# Altium integrated library Altium Database Library V2.IntLib: 629 symbols (part 20 of 28)

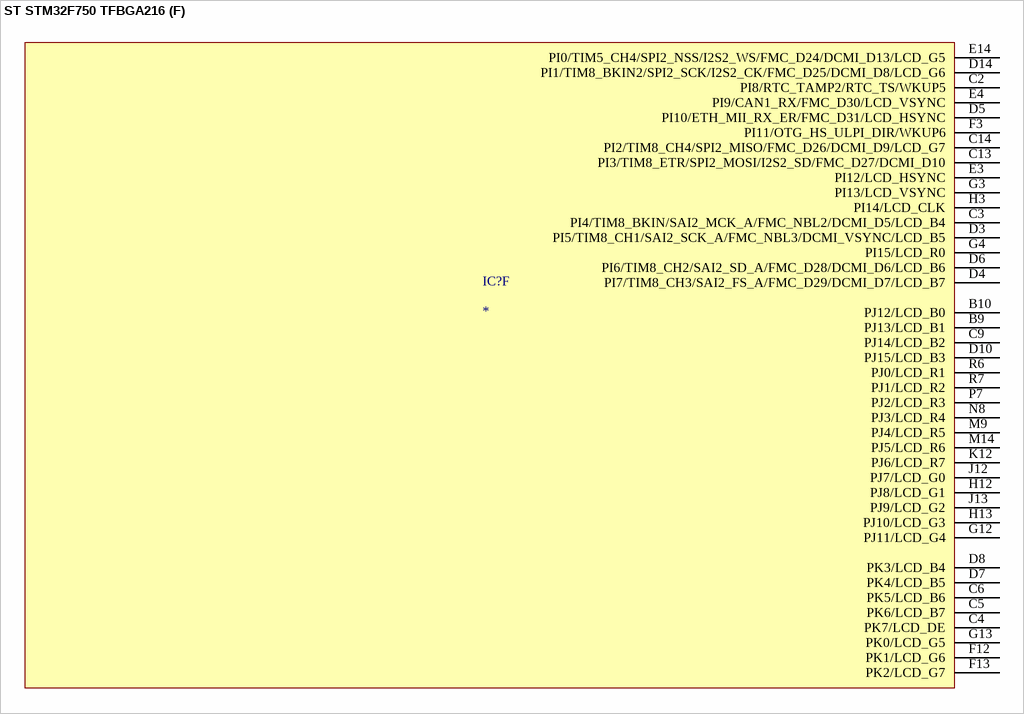
[diagram p437: symbol ST STM32F750 TFBGA216]

## ST STM32F750 TFBGA216
designator IC?
part A pins: C1 VBAT, E5 PDR_ON, E6 BOOT/VPP, E7 VDD, E8 VDD, E9 VDD, E10 VDD, E11 VCAP_2, F2 VSS, F4 VDD, F5 VDD, F6 VSS, F7 VSS, F8 VSS, F9 VSS, F10 VSS, F11 VDD, G5 VDD, G6 VSS, G10 VSS, G11 VDDUSB, H5 VDD, H6 VSS, H10 VSS, H11 VDD, J1 ~{RST}, J5 VDD, J6 VSS, J10 VSS, J11 VDD, K5 VDD, K6 VSS, K7 VSS, K8 VSS, K9 VSS, K10 VSS, K11 VDD, L5 BYPASS_REG, L6 VSS, L7 VDD, L8 VDD, L9 VDD, L10 VDD, L11 VCAP_1, M1 VSSA, N1 VREF-, P1 VREF+, R1 VDDA
part B pins: A7 PB8/TIM4_CH3/TIM10_CH1/I2C1_SCL/CAN1_RX/ETH_MII_TXD3/SDMMC1_D4/DCMI_D6/LCD_B6, A8 PB5/TIM3_CH2/I2C1_SMBA/SPI1_MOSI/I2S1_SD/SPI3_MOSI/I2S3_SD/CAN2_RX/OTG_HS_ULPI_D7/ETH_PPS_OUT/FMC_SDCKE1/DCMI_D10, A9 PB4/NJTRST/TIM3_CH1/SPI1_MISO/SPI3_MISO/SPI2_NSS/I2S2_WS, A10 PB3/JTDO/TRAC ESWO/TRACESWO/TIM2_CH2/SPI1_SCK/I2S1_CK/SPI3_SCK/I2S3_CK, A13 PA15/JTDI/TIM2_CH1/TIM2_ETR/HDMI-CEC/SPI1_NSS/I2S1_WS/SPI3_NSS/I2S3_WS/UART4_RTS, A14 PA14/JTCK- SWCLK/JTCK-SWCLK, A15 PA13/JTMS- SWDIO/JTMS-SWDIO, B4 PB9/TIM4_CH4/TIM11_CH1/I2C1_SDA/SPI2_NSS/I2S2_WS/CAN1_TX/SDMMC1_D5/DCMI_D7/LCD_B7, B5 PB7/TIM4_CH2/I2C1_SDA/USART1_RX/FMC_NL/DCMI_VSYNC, B6 PB6/TIM4_CH1/HDMI-CEC/I2C1_SCL/USART1_TX/CAN2_TX/QUADSPI_BK1_NCS/FMC_SDNE1/DCMI_D5, B15 PA12/TIM1_ETR/USART1_RTS/SAI2_FS_B/CAN1_TX/OTG_FS_DP/LCD_R5, C15 PA11/TIM1_CH4/USART1_CTS/CAN1_RX/OTG_FS_DM/LCD_R4, D15 PA10/TIM1_CH3/USART1_RX/OTG_FS_ID/DCMI_D1, E15 PA9/TIM1_CH2/I2C3_SMBA/SPI2_SCK/I2S2_CK/USART1_TX/DCMI_D0/OTG_FS_VBUS, F15 PA8/MCO1/TIM1_CH1/TIM8_BKIN2/I2C3_SCL/USART1_CK/OTG_FS_SOF/LCD_R6, K14 PB13/TIM1_CH1N/SPI2_SCK/I2S2_CK/USART3_CTS/CAN2_TX/OTG_HS_ULPI_D6/ETH_MII_TXD1/ETH_RMII_TXD1/OTG_HS_VBUS, L13 PB12/TIM1_BKIN/I2C2_SMBA/SPI2_NSS/I2S2_WS/USART3_CK/CAN2_RX/OTG_HS_ULPI_D5/ETH_MII_TXD0/ETH_RMII_TXD0/OTG_HS_ID, M5 PB2/SAI1_SD_A/SPI3_MOSI/I2S3_SD/QUADSPI_CLK, N2 PA1/TIM2_CH2/TIM5_CH2/USART2_RTS/UART4_RX/QUADSPI_BK1_IO3/SAI2_MCK_B/ETH_MII_RX_CLK/ETH_RMII_REF_CLK/LCD_R2/ADC123_IN1, N3 PA0-WKUP(PA0)/TIM2_CH1/TIM2_ETR/TIM5_CH1/TIM8_ETR/USART2_CTS/UART4_TX/SAI2_SD_B/ETH_MII_CRS/ADC123_IN0/WKUP1, N4 PA4/SPI1_NSS/I2S1_WS/SPI3_NSS/I2S3_WS/USART2_CK/OTG_HS_SOF/DCMI_HSYNC/LCD_VSYNC/ADC12_IN4/DAC_OUT1, P2 PA2/TIM2_CH3/TIM5_CH3/TIM9_CH1/USART2_TX/SAI2_SCK_B/ETH_MDIO/LCD_R1/ADC123_IN2/WKUP2, P3 PA6/TIM1_BKIN/TIM3_CH1/TIM8_BKIN/SPI1_MISO/TIM13_CH1/DCMI_PIXCLK/LCD_G2/ADC12_IN6, P4 PA5/TIM2_CH1/TIM2_ETR/TIM8_CH1N/SPI1_SCK/I2S1_CK/OTG_HS_ULPI_CK/LCD_R4/ADC12_IN5/DAC_OUT2, P12 PB10/TIM2_CH3/I2C2_SCL/SPI2_SCK/I2S2_CK/USART3_TX/OTG_HS_ULPI_D3/ETH_MII_RX_ER/LCD_G4, R2 PA3/TIM2_CH4/TIM5_CH4/TIM9_CH2/USART2_RX/OTG_HS_ULPI_D0/ETH_MII_COL/LCD_B5/ADC123_IN3, R3 PA7/TIM1_CH1N/TIM3_CH2/TIM8_CH1N/SPI1_MOSI/I2S1_SD/TIM14_CH1/ETH_MII_RX_DV/ETH_RMII_CRS_DV/FMC_SDNWE/ADC12_IN7, R4 PB1/TIM1_CH3N/TIM3_CH4/TIM8_CH3N/LCD_R6/OTG_HS_ULPI_D2/ETH_MII_RXD3/ADC12_IN9, R5 PB0/TIM1_CH2N/TIM3_CH3/TIM8_CH2N/UART4_CTS/LCD_R3/OTG_HS_ULPI_D1/ETH_MII_RXD2/ADC12_IN8, R13 PB11/TIM2_CH4/I2C2_SDA/USART3_RX/OTG_HS_ULPI_D4/ETH_MII_TX_EN/ETH_RMII_TX_EN/LCD_G5, R14 PB14/TIM1_CH2N/TIM8_CH2N/SPI2_MISO/USART3_RTS/TIM12_CH1/OTG_HS_DM, R15 PB15/RTC_REFIN/TIM1_CH3N/TIM8_CH3N/SPI2_MOSI/I2S2_SD/TIM12_CH2/OTG_HS_DP
part C pins: A11 PD7/USART2_CK/SPDIFRX_IN0/FMC_NE1, A12 PC12/TRACED3/SPI3_MOSI/I2S3_SD/USART3_CK/UART5_TX/SDMMC1_CK/DCMI_D9, B11 PD6/SPI3_MOSI/I2S3_SD/SAI1_SD_A/USART2_RX/FMC_NWAIT/DCMI_D10/LCD_B2, B12 PD0/CAN1_RX/FMC_D2, B13 PC11/SPI3_MISO/USART3_RX/UART4_RX/QUADSPI_BK2_NCS/SDMMC1_D3/DCMI_D4, B14 PC10/SPI3_SCK/I2S3_CK/USART3_TX/UART4_TX/QUADSPI_BK1_IO1/SDMMC1_D2/DCMI_D8/LCD_R2, C10 PD5/USART2_TX/FMC_NWE, C11 PD3/SPI2_SCK/I2S2_CK/USART2_CTS/FMC_CLK/DCMI_D5/LCD_G7, C12 PD1/CAN1_TX/FMC_D3, D1 PC13/RTC_TAMP1/RTC_TS/RTC_OUT/WKUP4, D11 PD4/USART2_RTS/FMC_NOE, D12 PD2/TRACED2/TIM3_ETR/UART5_RX/SDMMC1_CMD/DCMI_D11, E1 PC14/OSC32_IN, F1 PC15/OSC32_OUT, F14 PC9/MCO2/TIM3_CH4/TIM8_CH4/I2C3_SDA/I2S_CKIN/UART5_CTS/QUADSPI_BK1_IO0/SDMMC1_D1/DCMI_D3, G14 PC8/TRACED1/TIM3_CH3/TIM8_CH3/UART5_RTS/USART6_CK/SDMMC1_D0/DCMI_D2, G15 PC7/TIM3_CH2/TIM8_CH2/I2S3_MCK/USART6_RX/SDMMC1_D7/DCMI_D1/LCD_G6, H15 PC6/TIM3_CH1/TIM8_CH1/I2S2_MCK/USART6_TX/SDMMC1_D6/DCMI_D0/LCD_HSYNC, K13 PD15/TIM4_CH4/UART8_RTS/FMC_D1, K15 PD10/USART3_CK/FMC_D15/LCD_B3, L4 PC3/SPI2_MOSI/I2S2_SD/OTG_HS_ULPI_NXT/ETH_MII_TX_CLK/FMC_SDCKE0/ADC123_IN13, L12 PD14/TIM4_CH3/UART8_CTS/FMC_D0, L14 PD9/USART3_RX/FMC_D14, L15 PD8/USART3_TX/SPDIFRX_IN11/FMC_D13, M2 PC0/SAI2_FS_B/OTG_HS_ULPI_STP/FMC_SDNWE/LCD_R5/ADC123_IN10, M3 PC1/TRACED0/SPI2_MOSI/I2S2_SD/SAI1_SD_A/ETH_MDC/ADC123_IN11/RTC_TAMP3/WKUP3, M4 PC2/SPI2_MISO/OTG_HS_ULPI_DIR/ETH_MII_TXD2/FMC_SDNE0/ADC123_IN12, M10 PD12/TIM4_CH1/LPTIM1_IN1/I2C4_SCL/USART3_RTS/QUADSPI_BK1_IO1/SAI2_FS_A/FMC_A17/FMC_ALE, M11 PD13/TIM4_CH2/LPTIM1_OUT/I2C4_SDA/QUADSPI_BK1_IO3/SAI2_SCK_A/FMC_A18, N5 PC4/I2S1_MCK/SPDIFRX_IN2/ETH_MII_RXD0/ETH_RMII_RXD0/FMC_SDNE0/ADC12_IN14, N10 PD11/I2C4_SMBA/USART3_CTS/QUADSPI_BK1_IO0/SAI2_SD_A/FMC_A16/FMC_CLE, P5 PC5/SPDIFRX_IN3/ETH_MII_RXD1/ETH_RMII_RXD1/FMC_SDCKE0/ADC12_IN15
part D pins: A1 PE4/TRACED1/SPI4_NSS/SAI1_FS_A/FMC_A20/DCMI_D4/LCD_B0, A2 PE3/TRACED0/SAI1_SD_B/FMC_A19, A3 PE2/TRACECLK/SPI4_SCK/SAI1_MCLK_A/QUADSPI_BK1_IO2/ETH_MII_TXD3/FMC_A23, A5 PE1/LPTIM1_IN2/UART8_TX/FMC_NBL1/DCMI_D3, A6 PE0/TIM4_ETR/LPTIM1_ETR/UART8_RX/SAI2_MCK_A/FMC_NBL0/DCMI_D2, B1 PE5/TRACED2/TIM9_CH1/SPI4_MISO/SAI1_SCK_A/FMC_A21/DCMI_D6/LCD_G0, B2 PE6/TRACED3/TIM1_BKIN2/TIM9_CH2/SPI4_MOSI/SAI1_SD_A/SAI2_MCK_B/FMC_A22/DCMI_D7/LCD_G1, D2 PF0/I2C2_SDA/FMC_A0, E2 PF1/I2C2_SCL/FMC_A1, G2 PF2/I2C2_SMBA/FMC_A2, H2 PF3/FMC_A3/ADC3_IN9, J2 PF4/FMC_A4/ADC3_IN14, K1 PF7/TIM11_CH1/SPI5_SCK/SAI1_MCLK_B/UART7_TX/QUADSPI_BK1_IO2/ADC3_IN5, K2 PF6/TIM10_CH1/SPI5_NSS/SAI1_SD_B/UART7_RX/QUADSPI_BK1_IO3/ADC3_IN4, K3 PF5/FMC_A5/ADC3_IN15, L1 PF10/DCMI_D11/LCD_DE/ADC3_IN8, L2 PF9/SPI5_MOSI/SAI1_FS_B/UART7_CTS/TIM14_CH1/QUADSPI_BK1_IO1/ADC3_IN7, L3 PF8/SPI5_MISO/SAI1_SCK_B/UART7_RTS/TIM13_CH1/QUADSPI_BK1_IO0/ADC3_IN6, M6 PF12/FMC_A6, M8 PF15/I2C4_SDA/FMC_A9, N6 PF13/I2C4_SMBA/FMC_A7, N9 PE8/TIM1_CH1N/UART7_TX/QUADSPI_BK2_IO1/FMC_D5, P6 PF14/I2C4_SCL/FMC_A8, P8 PF11/SPI5_MOSI/SAI2_SD_B/FMC_SDNRAS/DCMI_D12, P9 PE9/TIM1_CH1/UART7_RTS/QUADSPI_BK2_IO2/FMC_D6, P10 PE11/TIM1_CH2/SPI4_NSS/SAI2_SD_B/FMC_D8/LCD_G3, P11 PE14/TIM1_CH4/SPI4_MOSI/SAI2_MCK_B/FMC_D11/LCD_CLK, R8 PE7/TIM1_ETR/UART7_RX/QUADSPI_BK2_IO0/FMC_D4, R9 PE10/TIM1_CH2N/UART7_CTS/QUADSPI_BK2_IO3/FMC_D7, R10 PE12/TIM1_CH3N/SPI4_SCK/SAI2_SCK_B/FMC_D9/LCD_B4, R11 PE15/TIM1_BKIN/FMC_D12/LCD_R7, R12 PE13/TIM1_CH3/SPI4_MISO/SAI2_FS_B/FMC_D10/LCD_DE
part E pins: A4 PG14/TRACED1/LPTIM1_ETR/SPI6_MOSI/USART6_TX/QUADSPI_BK2_IO3/ETH_MII_TXD1/ETH_RMII_TXD1/FMC_A25/LCD_B0, B3 PG13/TRACED0/LPTIM1_OUT/SPI6_SCK/USART6_CTS/ETH_MII_TXD0/ETH_RMII_TXD0/FMC_A24/LCD_R0, B7 PG15/USART6_CTS/FMC_SDNCAS/DCMI_D13, B8 PG11/SPDIFRX_IN0/ETH_MII_TX_EN/ETH_RMII_TX_EN/DCMI_D3/LCD_B3, C7 PG12/LPTIM1_IN1/SPI6_MISO/SPDIFRX_IN1/USART6_RTS/LCD_B4/FMC_NE4/LCD_B1, C8 PG10/LCD_G3/SAI2_SD_B/FMC_NE3/DCMI_D2/LCD_B2, D9 PG9/SPDIFRX_IN3/USART6_RX/QUADSPI_BK2_IO2/SAI2_FS_B/FMC_NE2/FMC_NCE/DCMI_VSYNC, D13 PH15/TIM8_CH3N/FMC_D23/DCMI_D11/LCD_G4, E12 PH13/TIM8_CH1N/CAN1_TX/FMC_D21/LCD_G2, E13 PH14/TIM8_CH2N/FMC_D22/DCMI_D4/LCD_G3, G1 PH0/OSC_IN, H1 PH1/OSC_OUT, H4 PH4/I2C2_SCL/OTG_HS_ULPI_NXT, H14 PG8/SPI6_NSS/SPDIFRX_IN2/USART6_RTS/ETH_PPS_OUT/FMC_SDCLK, J3 PH5/I2C2_SDA/SPI5_NSS/FMC_SDNWE, J4 PH3/QUADSPI_BK2_IO1/SAI2_MCK_B/ETH_MII_COL/FMC_SDNE0/LCD_R1, J14 PG7/USART6_CK/FMC_INT/DCMI_D13/LCD_CLK, J15 PG6/DCMI_D12/LCD_R7, K4 PH2/LPTIM1_IN2/QUADSPI_BK2_IO0/SAI2_SCK_B/ETH_MII_CRS/FMC_SDCKE0/LCD_R0, M7 PG1/FMC_A11, M12 PG3/FMC_A13, M13 PG2/FMC_A12, M15 PH12/TIM5_CH3/I2C4_SDA/FMC_D20/DCMI_D3/LCD_R6, N7 PG0/FMC_A10, N11 PG5/FMC_A15/FMC_BA1, N12 PG4/FMC_A14/FMC_BA0, N13 PH7/I2C3_SCL/SPI5_MISO/ETH_MII_RXD3/FMC_SDCKE1/DCMI_D9, N14 PH9/I2C3_SMBA/TIM12_CH2/FMC_D17/DCMI_D0/LCD_R3, N15 PH11/TIM5_CH2/I2C4_SCL/FMC_D19/DCMI_D2/LCD_R5, P13 PH6/I2C2_SMBA/SPI5_SCK/TIM12_CH1/ETH_MII_RXD2/FMC_SDNE1/DCMI_D8, P14 PH8/I2C3_SDA/FMC_D16/DCMI_HSYNC/LCD_R2, P15 PH10/TIM5_CH1/I2C4_SMBA/FMC_D18/DCMI_D1/LCD_R4
part F pins: B9 PJ13/LCD_B1, B10 PJ12/LCD_B0, C2 PI8/RTC_TAMP2/RTC_TS/WKUP5, C3 PI4/TIM8_BKIN/SAI2_MCK_A/FMC_NBL2/DCMI_D5/LCD_B4, C4 PK7/LCD_DE, C5 PK6/LCD_B7, C6 PK5/LCD_B6, C9 PJ14/LCD_B2, C13 PI3/TIM8_ETR/SPI2_MOSI/I2S2_SD/FMC_D27/DCMI_D10, C14 PI2/TIM8_CH4/SPI2_MISO/FMC_D26/DCMI_D9/LCD_G7, D3 PI5/TIM8_CH1/SAI2_SCK_A/FMC_NBL3/DCMI_VSYNC/LCD_B5, D4 PI7/TIM8_CH3/SAI2_FS_A/FMC_D29/DCMI_D7/LCD_B7, D5 PI10/ETH_MII_RX_ER/FMC_D31/LCD_HSYNC, D6 PI6/TIM8_CH2/SAI2_SD_A/FMC_D28/DCMI_D6/LCD_B6, D7 PK4/LCD_B5, D8 PK3/LCD_B4, D10 PJ15/LCD_B3, D14 PI1/TIM8_BKIN2/SPI2_SCK/I2S2_CK/FMC_D25/DCMI_D8/LCD_G6, E3 PI12/LCD_HSYNC, E4 PI9/CAN1_RX/FMC_D30/LCD_VSYNC, E14 PI0/TIM5_CH4/SPI2_NSS/I2S2_WS/FMC_D24/DCMI_D13/LCD_G5, F3 PI11/OTG_HS_ULPI_DIR/WKUP6, F12 PK1/LCD_G6, F13 PK2/LCD_G7, G3 PI13/LCD_VSYNC, G4 PI15/LCD_R0, G12 PJ11/LCD_G4, G13 PK0/LCD_G5, H3 PI14/LCD_CLK, H12 PJ8/LCD_G1, H13 PJ10/LCD_G3, J12 PJ7/LCD_G0, J13 PJ9/LCD_G2, K12 PJ6/LCD_R7, M9 PJ4/LCD_R5, M14 PJ5/LCD_R6, N8 PJ3/LCD_R4, P7 PJ2/LCD_R3, R6 PJ0/LCD_R1, R7 PJ1/LCD_R2


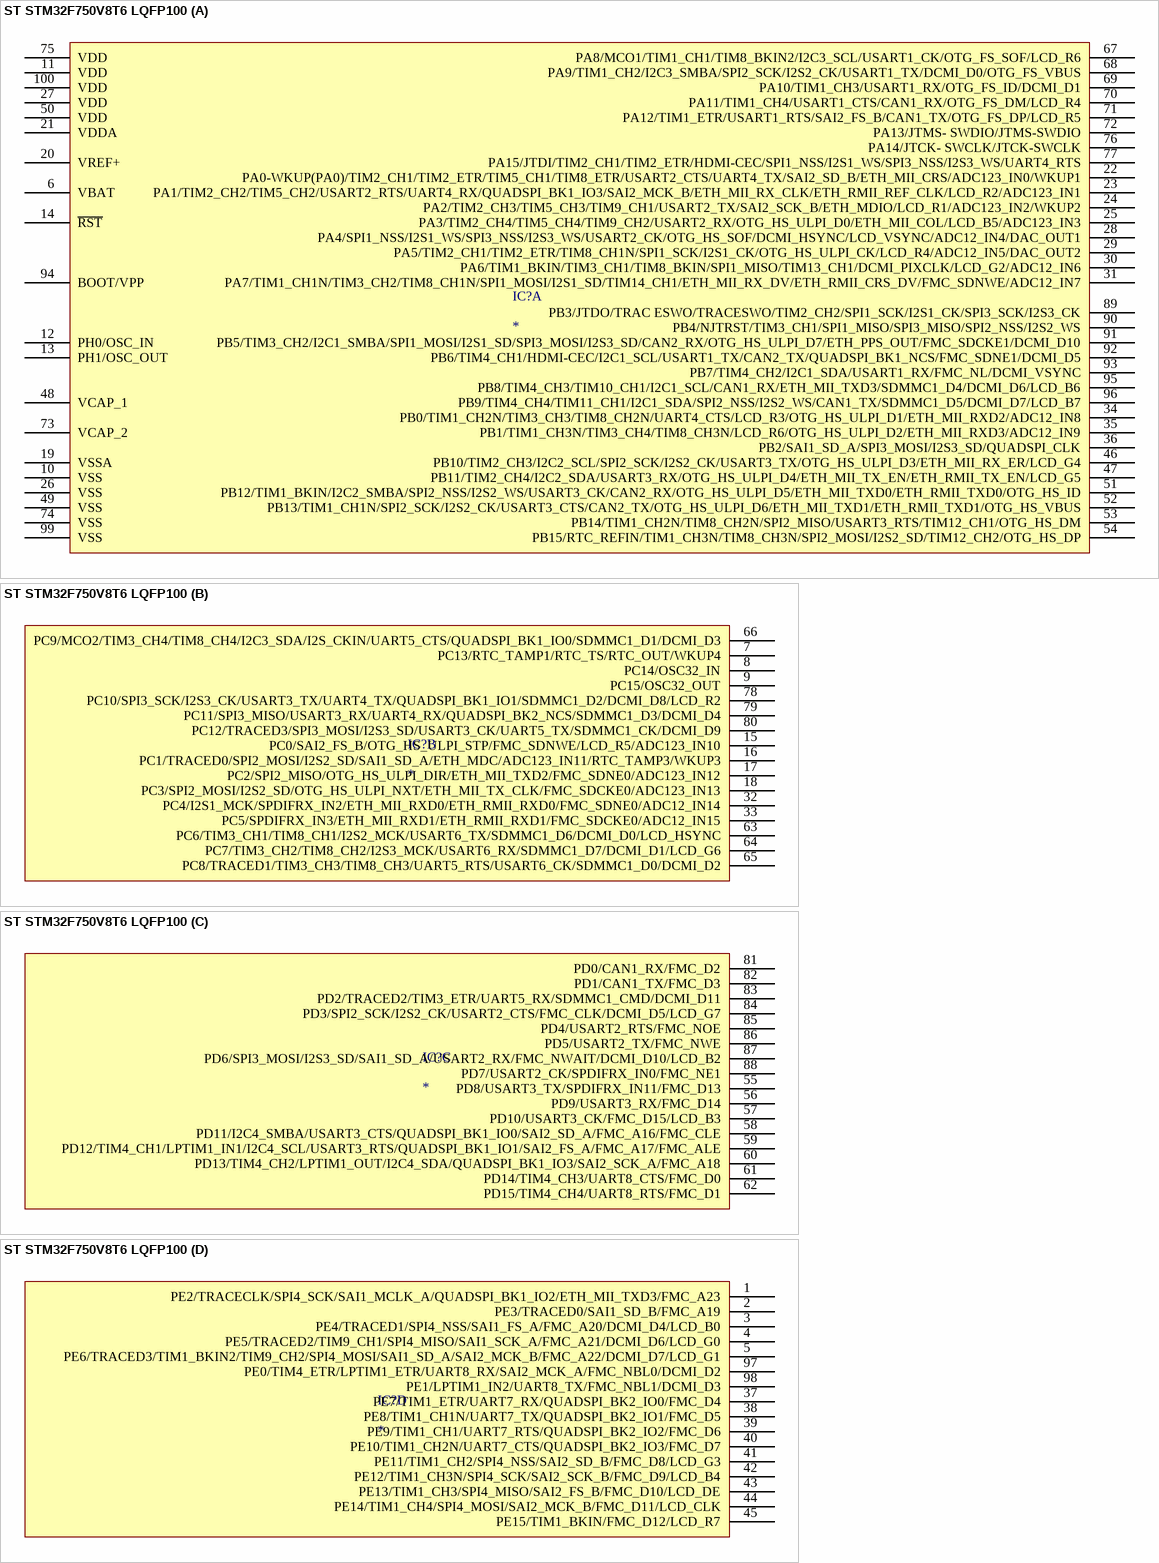
[diagram p438: symbol ST STM32F750V8T6 LQFP100]

## ST STM32F750V8T6 LQFP100
designator IC?
part A pins: 6 VBAT, 10 VSS, 11 VDD, 12 PH0/OSC_IN, 13 PH1/OSC_OUT, 14 ~{RST}, 19 VSSA, 20 VREF+, 21 VDDA, 22 PA0-WKUP(PA0)/TIM2_CH1/TIM2_ETR/TIM5_CH1/TIM8_ETR/USART2_CTS/UART4_TX/SAI2_SD_B/ETH_MII_CRS/ADC123_IN0/WKUP1, 23 PA1/TIM2_CH2/TIM5_CH2/USART2_RTS/UART4_RX/QUADSPI_BK1_IO3/SAI2_MCK_B/ETH_MII_RX_CLK/ETH_RMII_REF_CLK/LCD_R2/ADC123_IN1, 24 PA2/TIM2_CH3/TIM5_CH3/TIM9_CH1/USART2_TX/SAI2_SCK_B/ETH_MDIO/LCD_R1/ADC123_IN2/WKUP2, 25 PA3/TIM2_CH4/TIM5_CH4/TIM9_CH2/USART2_RX/OTG_HS_ULPI_D0/ETH_MII_COL/LCD_B5/ADC123_IN3, 26 VSS, 27 VDD, 28 PA4/SPI1_NSS/I2S1_WS/SPI3_NSS/I2S3_WS/USART2_CK/OTG_HS_SOF/DCMI_HSYNC/LCD_VSYNC/ADC12_IN4/DAC_OUT1, 29 PA5/TIM2_CH1/TIM2_ETR/TIM8_CH1N/SPI1_SCK/I2S1_CK/OTG_HS_ULPI_CK/LCD_R4/ADC12_IN5/DAC_OUT2, 30 PA6/TIM1_BKIN/TIM3_CH1/TIM8_BKIN/SPI1_MISO/TIM13_CH1/DCMI_PIXCLK/LCD_G2/ADC12_IN6, 31 PA7/TIM1_CH1N/TIM3_CH2/TIM8_CH1N/SPI1_MOSI/I2S1_SD/TIM14_CH1/ETH_MII_RX_DV/ETH_RMII_CRS_DV/FMC_SDNWE/ADC12_IN7, 34 PB0/TIM1_CH2N/TIM3_CH3/TIM8_CH2N/UART4_CTS/LCD_R3/OTG_HS_ULPI_D1/ETH_MII_RXD2/ADC12_IN8, 35 PB1/TIM1_CH3N/TIM3_CH4/TIM8_CH3N/LCD_R6/OTG_HS_ULPI_D2/ETH_MII_RXD3/ADC12_IN9, 36 PB2/SAI1_SD_A/SPI3_MOSI/I2S3_SD/QUADSPI_CLK, 46 PB10/TIM2_CH3/I2C2_SCL/SPI2_SCK/I2S2_CK/USART3_TX/OTG_HS_ULPI_D3/ETH_MII_RX_ER/LCD_G4, 47 PB11/TIM2_CH4/I2C2_SDA/USART3_RX/OTG_HS_ULPI_D4/ETH_MII_TX_EN/ETH_RMII_TX_EN/LCD_G5, 48 VCAP_1, 49 VSS, 50 VDD, 51 PB12/TIM1_BKIN/I2C2_SMBA/SPI2_NSS/I2S2_WS/USART3_CK/CAN2_RX/OTG_HS_ULPI_D5/ETH_MII_TXD0/ETH_RMII_TXD0/OTG_HS_ID, 52 PB13/TIM1_CH1N/SPI2_SCK/I2S2_CK/USART3_CTS/CAN2_TX/OTG_HS_ULPI_D6/ETH_MII_TXD1/ETH_RMII_TXD1/OTG_HS_VBUS, 53 PB14/TIM1_CH2N/TIM8_CH2N/SPI2_MISO/USART3_RTS/TIM12_CH1/OTG_HS_DM, 54 PB15/RTC_REFIN/TIM1_CH3N/TIM8_CH3N/SPI2_MOSI/I2S2_SD/TIM12_CH2/OTG_HS_DP, 67 PA8/MCO1/TIM1_CH1/TIM8_BKIN2/I2C3_SCL/USART1_CK/OTG_FS_SOF/LCD_R6, 68 PA9/TIM1_CH2/I2C3_SMBA/SPI2_SCK/I2S2_CK/USART1_TX/DCMI_D0/OTG_FS_VBUS, 69 PA10/TIM1_CH3/USART1_RX/OTG_FS_ID/DCMI_D1, 70 PA11/TIM1_CH4/USART1_CTS/CAN1_RX/OTG_FS_DM/LCD_R4, 71 PA12/TIM1_ETR/USART1_RTS/SAI2_FS_B/CAN1_TX/OTG_FS_DP/LCD_R5, 72 PA13/JTMS- SWDIO/JTMS-SWDIO, 73 VCAP_2, 74 VSS, 75 VDD, 76 PA14/JTCK- SWCLK/JTCK-SWCLK, 77 PA15/JTDI/TIM2_CH1/TIM2_ETR/HDMI-CEC/SPI1_NSS/I2S1_WS/SPI3_NSS/I2S3_WS/UART4_RTS, 89 PB3/JTDO/TRAC ESWO/TRACESWO/TIM2_CH2/SPI1_SCK/I2S1_CK/SPI3_SCK/I2S3_CK, 90 PB4/NJTRST/TIM3_CH1/SPI1_MISO/SPI3_MISO/SPI2_NSS/I2S2_WS, 91 PB5/TIM3_CH2/I2C1_SMBA/SPI1_MOSI/I2S1_SD/SPI3_MOSI/I2S3_SD/CAN2_RX/OTG_HS_ULPI_D7/ETH_PPS_OUT/FMC_SDCKE1/DCMI_D10, 92 PB6/TIM4_CH1/HDMI-CEC/I2C1_SCL/USART1_TX/CAN2_TX/QUADSPI_BK1_NCS/FMC_SDNE1/DCMI_D5, 93 PB7/TIM4_CH2/I2C1_SDA/USART1_RX/FMC_NL/DCMI_VSYNC, 94 BOOT/VPP, 95 PB8/TIM4_CH3/TIM10_CH1/I2C1_SCL/CAN1_RX/ETH_MII_TXD3/SDMMC1_D4/DCMI_D6/LCD_B6, 96 PB9/TIM4_CH4/TIM11_CH1/I2C1_SDA/SPI2_NSS/I2S2_WS/CAN1_TX/SDMMC1_D5/DCMI_D7/LCD_B7, 99 VSS, 100 VDD
part B pins: 7 PC13/RTC_TAMP1/RTC_TS/RTC_OUT/WKUP4, 8 PC14/OSC32_IN, 9 PC15/OSC32_OUT, 15 PC0/SAI2_FS_B/OTG_HS_ULPI_STP/FMC_SDNWE/LCD_R5/ADC123_IN10, 16 PC1/TRACED0/SPI2_MOSI/I2S2_SD/SAI1_SD_A/ETH_MDC/ADC123_IN11/RTC_TAMP3/WKUP3, 17 PC2/SPI2_MISO/OTG_HS_ULPI_DIR/ETH_MII_TXD2/FMC_SDNE0/ADC123_IN12, 18 PC3/SPI2_MOSI/I2S2_SD/OTG_HS_ULPI_NXT/ETH_MII_TX_CLK/FMC_SDCKE0/ADC123_IN13, 32 PC4/I2S1_MCK/SPDIFRX_IN2/ETH_MII_RXD0/ETH_RMII_RXD0/FMC_SDNE0/ADC12_IN14, 33 PC5/SPDIFRX_IN3/ETH_MII_RXD1/ETH_RMII_RXD1/FMC_SDCKE0/ADC12_IN15, 63 PC6/TIM3_CH1/TIM8_CH1/I2S2_MCK/USART6_TX/SDMMC1_D6/DCMI_D0/LCD_HSYNC, 64 PC7/TIM3_CH2/TIM8_CH2/I2S3_MCK/USART6_RX/SDMMC1_D7/DCMI_D1/LCD_G6, 65 PC8/TRACED1/TIM3_CH3/TIM8_CH3/UART5_RTS/USART6_CK/SDMMC1_D0/DCMI_D2, 66 PC9/MCO2/TIM3_CH4/TIM8_CH4/I2C3_SDA/I2S_CKIN/UART5_CTS/QUADSPI_BK1_IO0/SDMMC1_D1/DCMI_D3, 78 PC10/SPI3_SCK/I2S3_CK/USART3_TX/UART4_TX/QUADSPI_BK1_IO1/SDMMC1_D2/DCMI_D8/LCD_R2, 79 PC11/SPI3_MISO/USART3_RX/UART4_RX/QUADSPI_BK2_NCS/SDMMC1_D3/DCMI_D4, 80 PC12/TRACED3/SPI3_MOSI/I2S3_SD/USART3_CK/UART5_TX/SDMMC1_CK/DCMI_D9
part C pins: 55 PD8/USART3_TX/SPDIFRX_IN11/FMC_D13, 56 PD9/USART3_RX/FMC_D14, 57 PD10/USART3_CK/FMC_D15/LCD_B3, 58 PD11/I2C4_SMBA/USART3_CTS/QUADSPI_BK1_IO0/SAI2_SD_A/FMC_A16/FMC_CLE, 59 PD12/TIM4_CH1/LPTIM1_IN1/I2C4_SCL/USART3_RTS/QUADSPI_BK1_IO1/SAI2_FS_A/FMC_A17/FMC_ALE, 60 PD13/TIM4_CH2/LPTIM1_OUT/I2C4_SDA/QUADSPI_BK1_IO3/SAI2_SCK_A/FMC_A18, 61 PD14/TIM4_CH3/UART8_CTS/FMC_D0, 62 PD15/TIM4_CH4/UART8_RTS/FMC_D1, 81 PD0/CAN1_RX/FMC_D2, 82 PD1/CAN1_TX/FMC_D3, 83 PD2/TRACED2/TIM3_ETR/UART5_RX/SDMMC1_CMD/DCMI_D11, 84 PD3/SPI2_SCK/I2S2_CK/USART2_CTS/FMC_CLK/DCMI_D5/LCD_G7, 85 PD4/USART2_RTS/FMC_NOE, 86 PD5/USART2_TX/FMC_NWE, 87 PD6/SPI3_MOSI/I2S3_SD/SAI1_SD_A/USART2_RX/FMC_NWAIT/DCMI_D10/LCD_B2, 88 PD7/USART2_CK/SPDIFRX_IN0/FMC_NE1
part D pins: 1 PE2/TRACECLK/SPI4_SCK/SAI1_MCLK_A/QUADSPI_BK1_IO2/ETH_MII_TXD3/FMC_A23, 2 PE3/TRACED0/SAI1_SD_B/FMC_A19, 3 PE4/TRACED1/SPI4_NSS/SAI1_FS_A/FMC_A20/DCMI_D4/LCD_B0, 4 PE5/TRACED2/TIM9_CH1/SPI4_MISO/SAI1_SCK_A/FMC_A21/DCMI_D6/LCD_G0, 5 PE6/TRACED3/TIM1_BKIN2/TIM9_CH2/SPI4_MOSI/SAI1_SD_A/SAI2_MCK_B/FMC_A22/DCMI_D7/LCD_G1, 37 PE7/TIM1_ETR/UART7_RX/QUADSPI_BK2_IO0/FMC_D4, 38 PE8/TIM1_CH1N/UART7_TX/QUADSPI_BK2_IO1/FMC_D5, 39 PE9/TIM1_CH1/UART7_RTS/QUADSPI_BK2_IO2/FMC_D6, 40 PE10/TIM1_CH2N/UART7_CTS/QUADSPI_BK2_IO3/FMC_D7, 41 PE11/TIM1_CH2/SPI4_NSS/SAI2_SD_B/FMC_D8/LCD_G3, 42 PE12/TIM1_CH3N/SPI4_SCK/SAI2_SCK_B/FMC_D9/LCD_B4, 43 PE13/TIM1_CH3/SPI4_MISO/SAI2_FS_B/FMC_D10/LCD_DE, 44 PE14/TIM1_CH4/SPI4_MOSI/SAI2_MCK_B/FMC_D11/LCD_CLK, 45 PE15/TIM1_BKIN/FMC_D12/LCD_R7, 97 PE0/TIM4_ETR/LPTIM1_ETR/UART8_RX/SAI2_MCK_A/FMC_NBL0/DCMI_D2, 98 PE1/LPTIM1_IN2/UART8_TX/FMC_NBL1/DCMI_D3


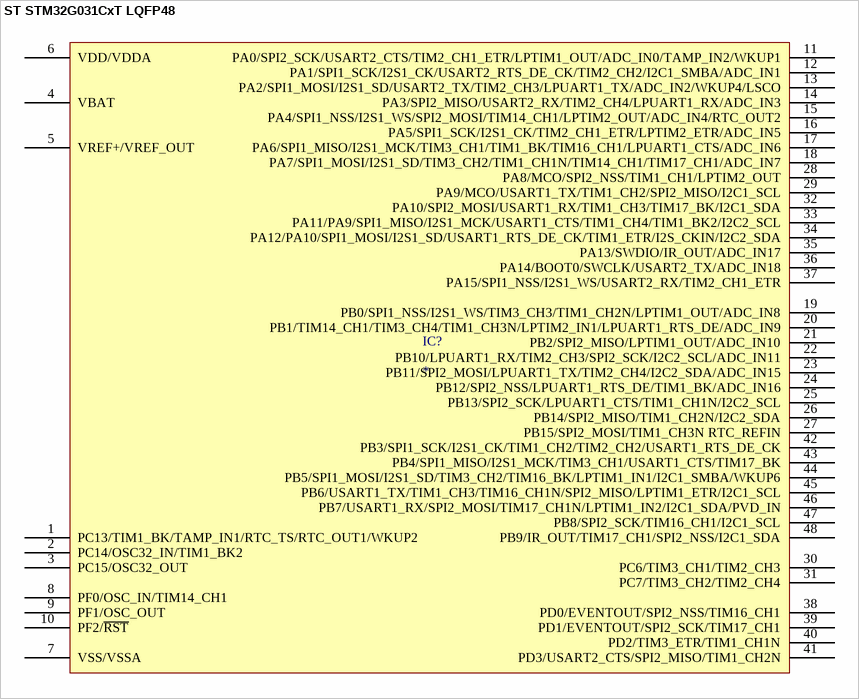
[diagram p439: symbol ST STM32G031CxT LQFP48]

## ST STM32G031CxT LQFP48
designator IC?
pins: 1 PC13/TIM1_BK/TAMP_IN1/RTC_TS/RTC_OUT1/WKUP2, 2 PC14/OSC32_IN/TIM1_BK2, 3 PC15/OSC32_OUT, 4 VBAT, 5 VREF+/VREF_OUT, 6 VDD/VDDA, 7 VSS/VSSA, 8 PF0/OSC_IN/TIM14_CH1, 9 PF1/OSC_OUT, 10 PF2/~{RST}, 11 PA0/SPI2_SCK/USART2_CTS/TIM2_CH1_ETR/LPTIM1_OUT/ADC_IN0/TAMP_IN2/WKUP1, 12 PA1/SPI1_SCK/I2S1_CK/USART2_RTS_DE_CK/TIM2_CH2/I2C1_SMBA/ADC_IN1, 13 PA2/SPI1_MOSI/I2S1_SD/USART2_TX/TIM2_CH3/LPUART1_TX/ADC_IN2/WKUP4/LSCO, 14 PA3/SPI2_MISO/USART2_RX/TIM2_CH4/LPUART1_RX/ADC_IN3, 15 PA4/SPI1_NSS/I2S1_WS/SPI2_MOSI/TIM14_CH1/LPTIM2_OUT/ADC_IN4/RTC_OUT2, 16 PA5/SPI1_SCK/I2S1_CK/TIM2_CH1_ETR/LPTIM2_ETR/ADC_IN5, 17 PA6/SPI1_MISO/I2S1_MCK/TIM3_CH1/TIM1_BK/TIM16_CH1/LPUART1_CTS/ADC_IN6, 18 PA7/SPI1_MOSI/I2S1_SD/TIM3_CH2/TIM1_CH1N/TIM14_CH1/TIM17_CH1/ADC_IN7, 19 PB0/SPI1_NSS/I2S1_WS/TIM3_CH3/TIM1_CH2N/LPTIM1_OUT/ADC_IN8, 20 PB1/TIM14_CH1/TIM3_CH4/TIM1_CH3N/LPTIM2_IN1/LPUART1_RTS_DE/ADC_IN9, 21 PB2/SPI2_MISO/LPTIM1_OUT/ADC_IN10, 22 PB10/LPUART1_RX/TIM2_CH3/SPI2_SCK/I2C2_SCL/ADC_IN11, 23 PB11/SPI2_MOSI/LPUART1_TX/TIM2_CH4/I2C2_SDA/ADC_IN15, 24 PB12/SPI2_NSS/LPUART1_RTS_DE/TIM1_BK/ADC_IN16, 25 PB13/SPI2_SCK/LPUART1_CTS/TIM1_CH1N/I2C2_SCL, 26 PB14/SPI2_MISO/TIM1_CH2N/I2C2_SDA, 27 PB15/SPI2_MOSI/TIM1_CH3N RTC_REFIN, 28 PA8/MCO/SPI2_NSS/TIM1_CH1/LPTIM2_OUT, 29 PA9/MCO/USART1_TX/TIM1_CH2/SPI2_MISO/I2C1_SCL, 30 PC6/TIM3_CH1/TIM2_CH3, 31 PC7/TIM3_CH2/TIM2_CH4, 32 PA10/SPI2_MOSI/USART1_RX/TIM1_CH3/TIM17_BK/I2C1_SDA, 33 PA11/PA9/SPI1_MISO/I2S1_MCK/USART1_CTS/TIM1_CH4/TIM1_BK2/I2C2_SCL, 34 PA12/PA10/SPI1_MOSI/I2S1_SD/USART1_RTS_DE_CK/TIM1_ETR/I2S_CKIN/I2C2_SDA, 35 PA13/SWDIO/IR_OUT/ADC_IN17, 36 PA14/BOOT0/SWCLK/USART2_TX/ADC_IN18, 37 PA15/SPI1_NSS/I2S1_WS/USART2_RX/TIM2_CH1_ETR, 38 PD0/EVENTOUT/SPI2_NSS/TIM16_CH1, 39 PD1/EVENTOUT/SPI2_SCK/TIM17_CH1, 40 PD2/TIM3_ETR/TIM1_CH1N, 41 PD3/USART2_CTS/SPI2_MISO/TIM1_CH2N, 42 PB3/SPI1_SCK/I2S1_CK/TIM1_CH2/TIM2_CH2/USART1_RTS_DE_CK, 43 PB4/SPI1_MISO/I2S1_MCK/TIM3_CH1/USART1_CTS/TIM17_BK, 44 PB5/SPI1_MOSI/I2S1_SD/TIM3_CH2/TIM16_BK/LPTIM1_IN1/I2C1_SMBA/WKUP6, 45 PB6/USART1_TX/TIM1_CH3/TIM16_CH1N/SPI2_MISO/LPTIM1_ETR/I2C1_SCL, 46 PB7/USART1_RX/SPI2_MOSI/TIM17_CH1N/LPTIM1_IN2/I2C1_SDA/PVD_IN, 47 PB8/SPI2_SCK/TIM16_CH1/I2C1_SCL, 48 PB9/IR_OUT/TIM17_CH1/SPI2_NSS/I2C1_SDA


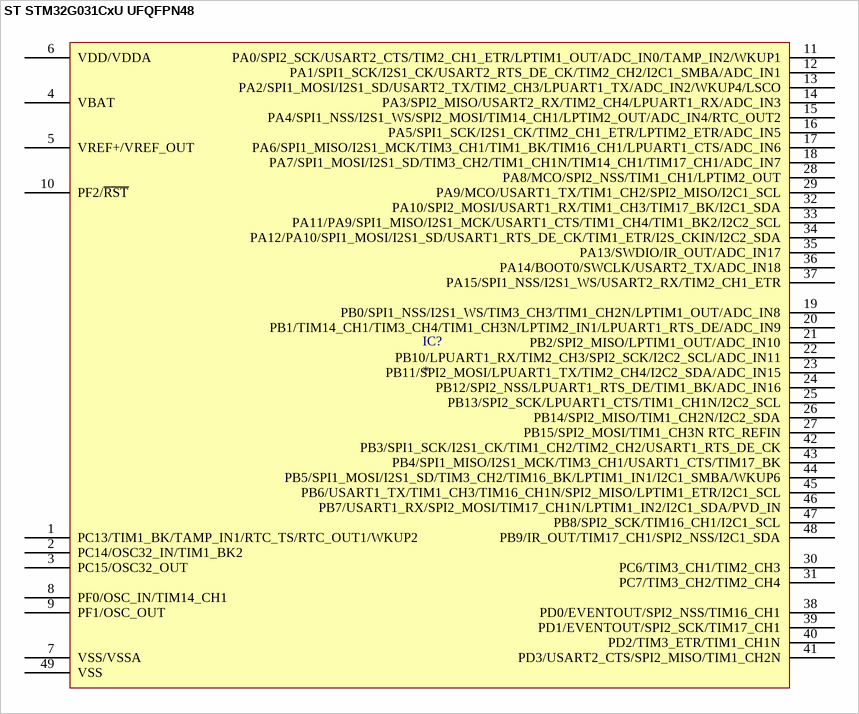
[diagram p440: symbol ST STM32G031CxU UFQFPN48]

## ST STM32G031CxU UFQFPN48
designator IC?
pins: 1 PC13/TIM1_BK/TAMP_IN1/RTC_TS/RTC_OUT1/WKUP2, 2 PC14/OSC32_IN/TIM1_BK2, 3 PC15/OSC32_OUT, 4 VBAT, 5 VREF+/VREF_OUT, 6 VDD/VDDA, 7 VSS/VSSA, 8 PF0/OSC_IN/TIM14_CH1, 9 PF1/OSC_OUT, 10 PF2/~{RST}, 11 PA0/SPI2_SCK/USART2_CTS/TIM2_CH1_ETR/LPTIM1_OUT/ADC_IN0/TAMP_IN2/WKUP1, 12 PA1/SPI1_SCK/I2S1_CK/USART2_RTS_DE_CK/TIM2_CH2/I2C1_SMBA/ADC_IN1, 13 PA2/SPI1_MOSI/I2S1_SD/USART2_TX/TIM2_CH3/LPUART1_TX/ADC_IN2/WKUP4/LSCO, 14 PA3/SPI2_MISO/USART2_RX/TIM2_CH4/LPUART1_RX/ADC_IN3, 15 PA4/SPI1_NSS/I2S1_WS/SPI2_MOSI/TIM14_CH1/LPTIM2_OUT/ADC_IN4/RTC_OUT2, 16 PA5/SPI1_SCK/I2S1_CK/TIM2_CH1_ETR/LPTIM2_ETR/ADC_IN5, 17 PA6/SPI1_MISO/I2S1_MCK/TIM3_CH1/TIM1_BK/TIM16_CH1/LPUART1_CTS/ADC_IN6, 18 PA7/SPI1_MOSI/I2S1_SD/TIM3_CH2/TIM1_CH1N/TIM14_CH1/TIM17_CH1/ADC_IN7, 19 PB0/SPI1_NSS/I2S1_WS/TIM3_CH3/TIM1_CH2N/LPTIM1_OUT/ADC_IN8, 20 PB1/TIM14_CH1/TIM3_CH4/TIM1_CH3N/LPTIM2_IN1/LPUART1_RTS_DE/ADC_IN9, 21 PB2/SPI2_MISO/LPTIM1_OUT/ADC_IN10, 22 PB10/LPUART1_RX/TIM2_CH3/SPI2_SCK/I2C2_SCL/ADC_IN11, 23 PB11/SPI2_MOSI/LPUART1_TX/TIM2_CH4/I2C2_SDA/ADC_IN15, 24 PB12/SPI2_NSS/LPUART1_RTS_DE/TIM1_BK/ADC_IN16, 25 PB13/SPI2_SCK/LPUART1_CTS/TIM1_CH1N/I2C2_SCL, 26 PB14/SPI2_MISO/TIM1_CH2N/I2C2_SDA, 27 PB15/SPI2_MOSI/TIM1_CH3N RTC_REFIN, 28 PA8/MCO/SPI2_NSS/TIM1_CH1/LPTIM2_OUT, 29 PA9/MCO/USART1_TX/TIM1_CH2/SPI2_MISO/I2C1_SCL, 30 PC6/TIM3_CH1/TIM2_CH3, 31 PC7/TIM3_CH2/TIM2_CH4, 32 PA10/SPI2_MOSI/USART1_RX/TIM1_CH3/TIM17_BK/I2C1_SDA, 33 PA11/PA9/SPI1_MISO/I2S1_MCK/USART1_CTS/TIM1_CH4/TIM1_BK2/I2C2_SCL, 34 PA12/PA10/SPI1_MOSI/I2S1_SD/USART1_RTS_DE_CK/TIM1_ETR/I2S_CKIN/I2C2_SDA, 35 PA13/SWDIO/IR_OUT/ADC_IN17, 36 PA14/BOOT0/SWCLK/USART2_TX/ADC_IN18, 37 PA15/SPI1_NSS/I2S1_WS/USART2_RX/TIM2_CH1_ETR, 38 PD0/EVENTOUT/SPI2_NSS/TIM16_CH1, 39 PD1/EVENTOUT/SPI2_SCK/TIM17_CH1, 40 PD2/TIM3_ETR/TIM1_CH1N, 41 PD3/USART2_CTS/SPI2_MISO/TIM1_CH2N, 42 PB3/SPI1_SCK/I2S1_CK/TIM1_CH2/TIM2_CH2/USART1_RTS_DE_CK, 43 PB4/SPI1_MISO/I2S1_MCK/TIM3_CH1/USART1_CTS/TIM17_BK, 44 PB5/SPI1_MOSI/I2S1_SD/TIM3_CH2/TIM16_BK/LPTIM1_IN1/I2C1_SMBA/WKUP6, 45 PB6/USART1_TX/TIM1_CH3/TIM16_CH1N/SPI2_MISO/LPTIM1_ETR/I2C1_SCL, 46 PB7/USART1_RX/SPI2_MOSI/TIM17_CH1N/LPTIM1_IN2/I2C1_SDA/PVD_IN, 47 PB8/SPI2_SCK/TIM16_CH1/I2C1_SCL, 48 PB9/IR_OUT/TIM17_CH1/SPI2_NSS/I2C1_SDA, 49 VSS


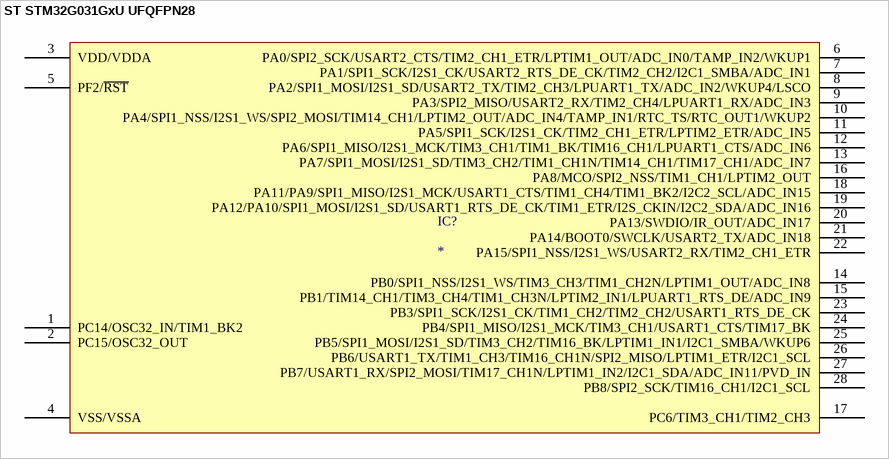
[diagram p441: symbol ST STM32G031GxU UFQFPN28]

## ST STM32G031GxU UFQFPN28
designator IC?
pins: 1 PC14/OSC32_IN/TIM1_BK2, 2 PC15/OSC32_OUT, 3 VDD/VDDA, 4 VSS/VSSA, 5 PF2/~{RST}, 6 PA0/SPI2_SCK/USART2_CTS/TIM2_CH1_ETR/LPTIM1_OUT/ADC_IN0/TAMP_IN2/WKUP1, 7 PA1/SPI1_SCK/I2S1_CK/USART2_RTS_DE_CK/TIM2_CH2/I2C1_SMBA/ADC_IN1, 8 PA2/SPI1_MOSI/I2S1_SD/USART2_TX/TIM2_CH3/LPUART1_TX/ADC_IN2/WKUP4/LSCO, 9 PA3/SPI2_MISO/USART2_RX/TIM2_CH4/LPUART1_RX/ADC_IN3, 10 PA4/SPI1_NSS/I2S1_WS/SPI2_MOSI/TIM14_CH1/LPTIM2_OUT/ADC_IN4/TAMP_IN1/RTC_TS/RTC_OUT1/WKUP2, 11 PA5/SPI1_SCK/I2S1_CK/TIM2_CH1_ETR/LPTIM2_ETR/ADC_IN5, 12 PA6/SPI1_MISO/I2S1_MCK/TIM3_CH1/TIM1_BK/TIM16_CH1/LPUART1_CTS/ADC_IN6, 13 PA7/SPI1_MOSI/I2S1_SD/TIM3_CH2/TIM1_CH1N/TIM14_CH1/TIM17_CH1/ADC_IN7, 14 PB0/SPI1_NSS/I2S1_WS/TIM3_CH3/TIM1_CH2N/LPTIM1_OUT/ADC_IN8, 15 PB1/TIM14_CH1/TIM3_CH4/TIM1_CH3N/LPTIM2_IN1/LPUART1_RTS_DE/ADC_IN9, 16 PA8/MCO/SPI2_NSS/TIM1_CH1/LPTIM2_OUT, 17 PC6/TIM3_CH1/TIM2_CH3, 18 PA11/PA9/SPI1_MISO/I2S1_MCK/USART1_CTS/TIM1_CH4/TIM1_BK2/I2C2_SCL/ADC_IN15, 19 PA12/PA10/SPI1_MOSI/I2S1_SD/USART1_RTS_DE_CK/TIM1_ETR/I2S_CKIN/I2C2_SDA/ADC_IN16, 20 PA13/SWDIO/IR_OUT/ADC_IN17, 21 PA14/BOOT0/SWCLK/USART2_TX/ADC_IN18, 22 PA15/SPI1_NSS/I2S1_WS/USART2_RX/TIM2_CH1_ETR, 23 PB3/SPI1_SCK/I2S1_CK/TIM1_CH2/TIM2_CH2/USART1_RTS_DE_CK, 24 PB4/SPI1_MISO/I2S1_MCK/TIM3_CH1/USART1_CTS/TIM17_BK, 25 PB5/SPI1_MOSI/I2S1_SD/TIM3_CH2/TIM16_BK/LPTIM1_IN1/I2C1_SMBA/WKUP6, 26 PB6/USART1_TX/TIM1_CH3/TIM16_CH1N/SPI2_MISO/LPTIM1_ETR/I2C1_SCL, 27 PB7/USART1_RX/SPI2_MOSI/TIM17_CH1N/LPTIM1_IN2/I2C1_SDA/ADC_IN11/PVD_IN, 28 PB8/SPI2_SCK/TIM16_CH1/I2C1_SCL


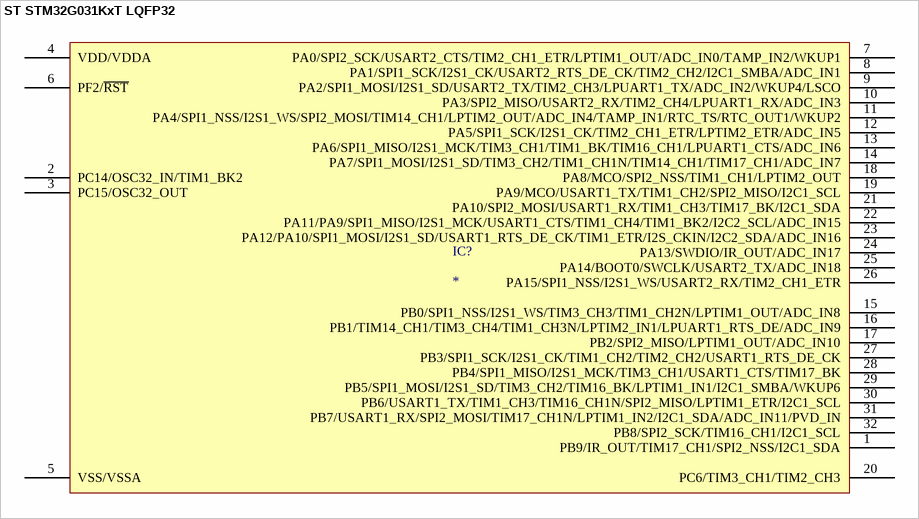
[diagram p442: symbol ST STM32G031KxT LQFP32]

## ST STM32G031KxT LQFP32
designator IC?
pins: 1 PB9/IR_OUT/TIM17_CH1/SPI2_NSS/I2C1_SDA, 2 PC14/OSC32_IN/TIM1_BK2, 3 PC15/OSC32_OUT, 4 VDD/VDDA, 5 VSS/VSSA, 6 PF2/~{RST}, 7 PA0/SPI2_SCK/USART2_CTS/TIM2_CH1_ETR/LPTIM1_OUT/ADC_IN0/TAMP_IN2/WKUP1, 8 PA1/SPI1_SCK/I2S1_CK/USART2_RTS_DE_CK/TIM2_CH2/I2C1_SMBA/ADC_IN1, 9 PA2/SPI1_MOSI/I2S1_SD/USART2_TX/TIM2_CH3/LPUART1_TX/ADC_IN2/WKUP4/LSCO, 10 PA3/SPI2_MISO/USART2_RX/TIM2_CH4/LPUART1_RX/ADC_IN3, 11 PA4/SPI1_NSS/I2S1_WS/SPI2_MOSI/TIM14_CH1/LPTIM2_OUT/ADC_IN4/TAMP_IN1/RTC_TS/RTC_OUT1/WKUP2, 12 PA5/SPI1_SCK/I2S1_CK/TIM2_CH1_ETR/LPTIM2_ETR/ADC_IN5, 13 PA6/SPI1_MISO/I2S1_MCK/TIM3_CH1/TIM1_BK/TIM16_CH1/LPUART1_CTS/ADC_IN6, 14 PA7/SPI1_MOSI/I2S1_SD/TIM3_CH2/TIM1_CH1N/TIM14_CH1/TIM17_CH1/ADC_IN7, 15 PB0/SPI1_NSS/I2S1_WS/TIM3_CH3/TIM1_CH2N/LPTIM1_OUT/ADC_IN8, 16 PB1/TIM14_CH1/TIM3_CH4/TIM1_CH3N/LPTIM2_IN1/LPUART1_RTS_DE/ADC_IN9, 17 PB2/SPI2_MISO/LPTIM1_OUT/ADC_IN10, 18 PA8/MCO/SPI2_NSS/TIM1_CH1/LPTIM2_OUT, 19 PA9/MCO/USART1_TX/TIM1_CH2/SPI2_MISO/I2C1_SCL, 20 PC6/TIM3_CH1/TIM2_CH3, 21 PA10/SPI2_MOSI/USART1_RX/TIM1_CH3/TIM17_BK/I2C1_SDA, 22 PA11/PA9/SPI1_MISO/I2S1_MCK/USART1_CTS/TIM1_CH4/TIM1_BK2/I2C2_SCL/ADC_IN15, 23 PA12/PA10/SPI1_MOSI/I2S1_SD/USART1_RTS_DE_CK/TIM1_ETR/I2S_CKIN/I2C2_SDA/ADC_IN16, 24 PA13/SWDIO/IR_OUT/ADC_IN17, 25 PA14/BOOT0/SWCLK/USART2_TX/ADC_IN18, 26 PA15/SPI1_NSS/I2S1_WS/USART2_RX/TIM2_CH1_ETR, 27 PB3/SPI1_SCK/I2S1_CK/TIM1_CH2/TIM2_CH2/USART1_RTS_DE_CK, 28 PB4/SPI1_MISO/I2S1_MCK/TIM3_CH1/USART1_CTS/TIM17_BK, 29 PB5/SPI1_MOSI/I2S1_SD/TIM3_CH2/TIM16_BK/LPTIM1_IN1/I2C1_SMBA/WKUP6, 30 PB6/USART1_TX/TIM1_CH3/TIM16_CH1N/SPI2_MISO/LPTIM1_ETR/I2C1_SCL, 31 PB7/USART1_RX/SPI2_MOSI/TIM17_CH1N/LPTIM1_IN2/I2C1_SDA/ADC_IN11/PVD_IN, 32 PB8/SPI2_SCK/TIM16_CH1/I2C1_SCL


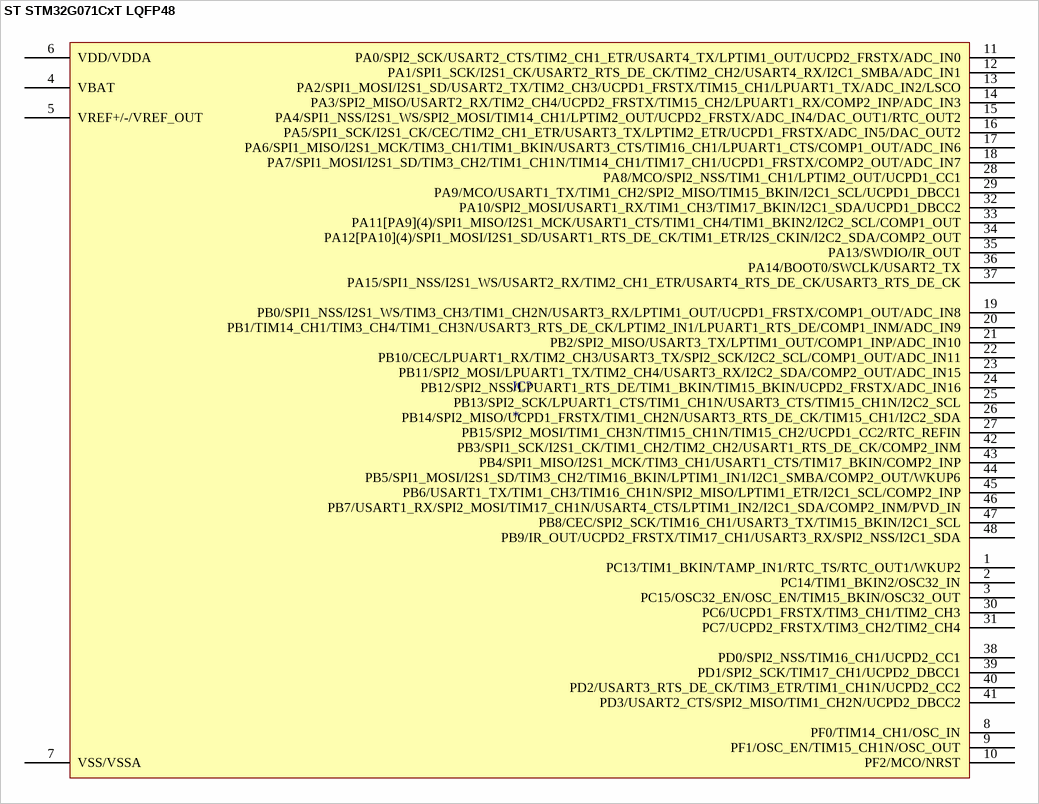
[diagram p443: symbol ST STM32G071CxT LQFP48]

## ST STM32G071CxT LQFP48
designator IC?
pins: 1 PC13/TIM1_BKIN/TAMP_IN1/RTC_TS/RTC_OUT1/WKUP2, 2 PC14/TIM1_BKIN2/OSC32_IN, 3 PC15/OSC32_EN/OSC_EN/TIM15_BKIN/OSC32_OUT, 4 VBAT, 5 VREF+/-/VREF_OUT, 6 VDD/VDDA, 7 VSS/VSSA, 8 PF0/TIM14_CH1/OSC_IN, 9 PF1/OSC_EN/TIM15_CH1N/OSC_OUT, 10 PF2/MCO/NRST, 11 PA0/SPI2_SCK/USART2_CTS/TIM2_CH1_ETR/USART4_TX/LPTIM1_OUT/UCPD2_FRSTX/ADC_IN0, 12 PA1/SPI1_SCK/I2S1_CK/USART2_RTS_DE_CK/TIM2_CH2/USART4_RX/I2C1_SMBA/ADC_IN1, 13 PA2/SPI1_MOSI/I2S1_SD/USART2_TX/TIM2_CH3/UCPD1_FRSTX/TIM15_CH1/LPUART1_TX/ADC_IN2/LSCO, 14 PA3/SPI2_MISO/USART2_RX/TIM2_CH4/UCPD2_FRSTX/TIM15_CH2/LPUART1_RX/COMP2_INP/ADC_IN3, 15 PA4/SPI1_NSS/I2S1_WS/SPI2_MOSI/TIM14_CH1/LPTIM2_OUT/UCPD2_FRSTX/ADC_IN4/DAC_OUT1/RTC_OUT2, 16 PA5/SPI1_SCK/I2S1_CK/CEC/TIM2_CH1_ETR/USART3_TX/LPTIM2_ETR/UCPD1_FRSTX/ADC_IN5/DAC_OUT2, 17 PA6/SPI1_MISO/I2S1_MCK/TIM3_CH1/TIM1_BKIN/USART3_CTS/TIM16_CH1/LPUART1_CTS/COMP1_OUT/ADC_IN6, 18 PA7/SPI1_MOSI/I2S1_SD/TIM3_CH2/TIM1_CH1N/TIM14_CH1/TIM17_CH1/UCPD1_FRSTX/COMP2_OUT/ADC_IN7, 19 PB0/SPI1_NSS/I2S1_WS/TIM3_CH3/TIM1_CH2N/USART3_RX/LPTIM1_OUT/UCPD1_FRSTX/COMP1_OUT/ADC_IN8, 20 PB1/TIM14_CH1/TIM3_CH4/TIM1_CH3N/USART3_RTS_DE_CK/LPTIM2_IN1/LPUART1_RTS_DE/COMP1_INM/ADC_IN9, 21 PB2/SPI2_MISO/USART3_TX/LPTIM1_OUT/COMP1_INP/ADC_IN10, 22 PB10/CEC/LPUART1_RX/TIM2_CH3/USART3_TX/SPI2_SCK/I2C2_SCL/COMP1_OUT/ADC_IN11, 23 PB11/SPI2_MOSI/LPUART1_TX/TIM2_CH4/USART3_RX/I2C2_SDA/COMP2_OUT/ADC_IN15, 24 PB12/SPI2_NSS/LPUART1_RTS_DE/TIM1_BKIN/TIM15_BKIN/UCPD2_FRSTX/ADC_IN16, 25 PB13/SPI2_SCK/LPUART1_CTS/TIM1_CH1N/USART3_CTS/TIM15_CH1N/I2C2_SCL, 26 PB14/SPI2_MISO/UCPD1_FRSTX/TIM1_CH2N/USART3_RTS_DE_CK/TIM15_CH1/I2C2_SDA, 27 PB15/SPI2_MOSI/TIM1_CH3N/TIM15_CH1N/TIM15_CH2/UCPD1_CC2/RTC_REFIN, 28 PA8/MCO/SPI2_NSS/TIM1_CH1/LPTIM2_OUT/UCPD1_CC1, 29 PA9/MCO/USART1_TX/TIM1_CH2/SPI2_MISO/TIM15_BKIN/I2C1_SCL/UCPD1_DBCC1, 30 PC6/UCPD1_FRSTX/TIM3_CH1/TIM2_CH3, 31 PC7/UCPD2_FRSTX/TIM3_CH2/TIM2_CH4, 32 PA10/SPI2_MOSI/USART1_RX/TIM1_CH3/TIM17_BKIN/I2C1_SDA/UCPD1_DBCC2, 33 PA11[PA9](4)/SPI1_MISO/I2S1_MCK/USART1_CTS/TIM1_CH4/TIM1_BKIN2/I2C2_SCL/COMP1_OUT, 34 PA12[PA10](4)/SPI1_MOSI/I2S1_SD/USART1_RTS_DE_CK/TIM1_ETR/I2S_CKIN/I2C2_SDA/COMP2_OUT, 35 PA13/SWDIO/IR_OUT, 36 PA14/BOOT0/SWCLK/USART2_TX, 37 PA15/SPI1_NSS/I2S1_WS/USART2_RX/TIM2_CH1_ETR/USART4_RTS_DE_CK/USART3_RTS_DE_CK, 38 PD0/SPI2_NSS/TIM16_CH1/UCPD2_CC1, 39 PD1/SPI2_SCK/TIM17_CH1/UCPD2_DBCC1, 40 PD2/USART3_RTS_DE_CK/TIM3_ETR/TIM1_CH1N/UCPD2_CC2, 41 PD3/USART2_CTS/SPI2_MISO/TIM1_CH2N/UCPD2_DBCC2, 42 PB3/SPI1_SCK/I2S1_CK/TIM1_CH2/TIM2_CH2/USART1_RTS_DE_CK/COMP2_INM, 43 PB4/SPI1_MISO/I2S1_MCK/TIM3_CH1/USART1_CTS/TIM17_BKIN/COMP2_INP, 44 PB5/SPI1_MOSI/I2S1_SD/TIM3_CH2/TIM16_BKIN/LPTIM1_IN1/I2C1_SMBA/COMP2_OUT/WKUP6, 45 PB6/USART1_TX/TIM1_CH3/TIM16_CH1N/SPI2_MISO/LPTIM1_ETR/I2C1_SCL/COMP2_INP, 46 PB7/USART1_RX/SPI2_MOSI/TIM17_CH1N/USART4_CTS/LPTIM1_IN2/I2C1_SDA/COMP2_INM/PVD_IN, 47 PB8/CEC/SPI2_SCK/TIM16_CH1/USART3_TX/TIM15_BKIN/I2C1_SCL, 48 PB9/IR_OUT/UCPD2_FRSTX/TIM17_CH1/USART3_RX/SPI2_NSS/I2C1_SDA


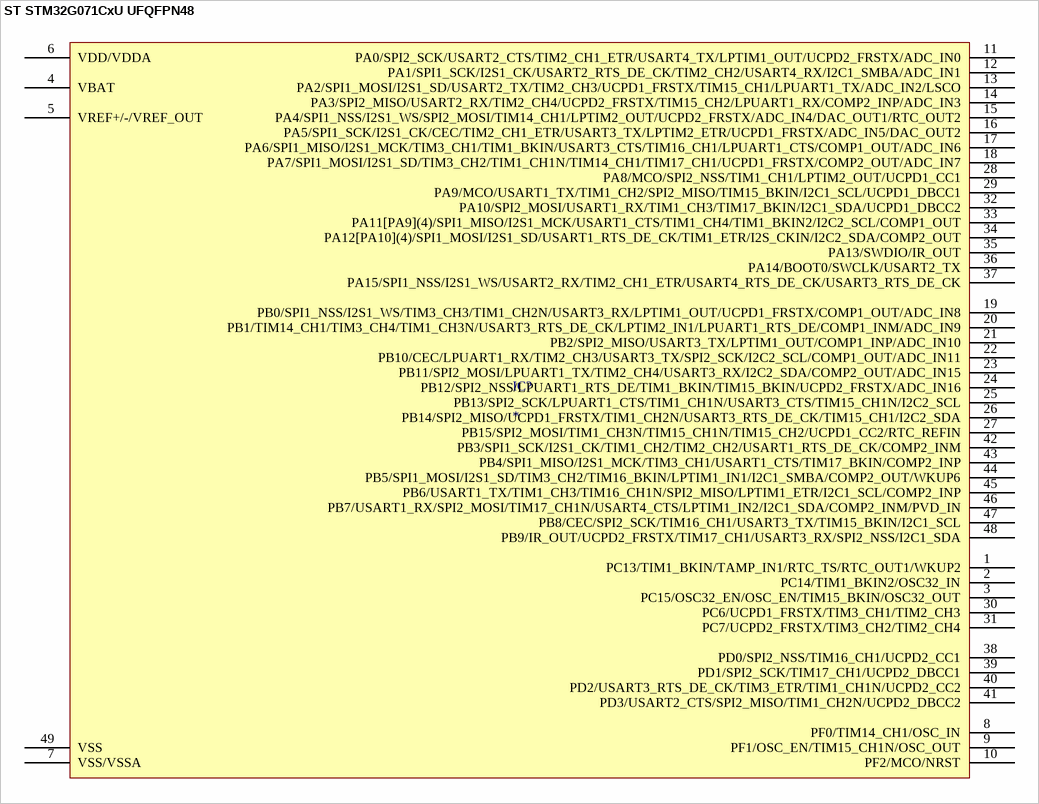
[diagram p444: symbol ST STM32G071CxU UFQFPN48]

## ST STM32G071CxU UFQFPN48
designator IC?
pins: 1 PC13/TIM1_BKIN/TAMP_IN1/RTC_TS/RTC_OUT1/WKUP2, 2 PC14/TIM1_BKIN2/OSC32_IN, 3 PC15/OSC32_EN/OSC_EN/TIM15_BKIN/OSC32_OUT, 4 VBAT, 5 VREF+/-/VREF_OUT, 6 VDD/VDDA, 7 VSS/VSSA, 8 PF0/TIM14_CH1/OSC_IN, 9 PF1/OSC_EN/TIM15_CH1N/OSC_OUT, 10 PF2/MCO/NRST, 11 PA0/SPI2_SCK/USART2_CTS/TIM2_CH1_ETR/USART4_TX/LPTIM1_OUT/UCPD2_FRSTX/ADC_IN0, 12 PA1/SPI1_SCK/I2S1_CK/USART2_RTS_DE_CK/TIM2_CH2/USART4_RX/I2C1_SMBA/ADC_IN1, 13 PA2/SPI1_MOSI/I2S1_SD/USART2_TX/TIM2_CH3/UCPD1_FRSTX/TIM15_CH1/LPUART1_TX/ADC_IN2/LSCO, 14 PA3/SPI2_MISO/USART2_RX/TIM2_CH4/UCPD2_FRSTX/TIM15_CH2/LPUART1_RX/COMP2_INP/ADC_IN3, 15 PA4/SPI1_NSS/I2S1_WS/SPI2_MOSI/TIM14_CH1/LPTIM2_OUT/UCPD2_FRSTX/ADC_IN4/DAC_OUT1/RTC_OUT2, 16 PA5/SPI1_SCK/I2S1_CK/CEC/TIM2_CH1_ETR/USART3_TX/LPTIM2_ETR/UCPD1_FRSTX/ADC_IN5/DAC_OUT2, 17 PA6/SPI1_MISO/I2S1_MCK/TIM3_CH1/TIM1_BKIN/USART3_CTS/TIM16_CH1/LPUART1_CTS/COMP1_OUT/ADC_IN6, 18 PA7/SPI1_MOSI/I2S1_SD/TIM3_CH2/TIM1_CH1N/TIM14_CH1/TIM17_CH1/UCPD1_FRSTX/COMP2_OUT/ADC_IN7, 19 PB0/SPI1_NSS/I2S1_WS/TIM3_CH3/TIM1_CH2N/USART3_RX/LPTIM1_OUT/UCPD1_FRSTX/COMP1_OUT/ADC_IN8, 20 PB1/TIM14_CH1/TIM3_CH4/TIM1_CH3N/USART3_RTS_DE_CK/LPTIM2_IN1/LPUART1_RTS_DE/COMP1_INM/ADC_IN9, 21 PB2/SPI2_MISO/USART3_TX/LPTIM1_OUT/COMP1_INP/ADC_IN10, 22 PB10/CEC/LPUART1_RX/TIM2_CH3/USART3_TX/SPI2_SCK/I2C2_SCL/COMP1_OUT/ADC_IN11, 23 PB11/SPI2_MOSI/LPUART1_TX/TIM2_CH4/USART3_RX/I2C2_SDA/COMP2_OUT/ADC_IN15, 24 PB12/SPI2_NSS/LPUART1_RTS_DE/TIM1_BKIN/TIM15_BKIN/UCPD2_FRSTX/ADC_IN16, 25 PB13/SPI2_SCK/LPUART1_CTS/TIM1_CH1N/USART3_CTS/TIM15_CH1N/I2C2_SCL, 26 PB14/SPI2_MISO/UCPD1_FRSTX/TIM1_CH2N/USART3_RTS_DE_CK/TIM15_CH1/I2C2_SDA, 27 PB15/SPI2_MOSI/TIM1_CH3N/TIM15_CH1N/TIM15_CH2/UCPD1_CC2/RTC_REFIN, 28 PA8/MCO/SPI2_NSS/TIM1_CH1/LPTIM2_OUT/UCPD1_CC1, 29 PA9/MCO/USART1_TX/TIM1_CH2/SPI2_MISO/TIM15_BKIN/I2C1_SCL/UCPD1_DBCC1, 30 PC6/UCPD1_FRSTX/TIM3_CH1/TIM2_CH3, 31 PC7/UCPD2_FRSTX/TIM3_CH2/TIM2_CH4, 32 PA10/SPI2_MOSI/USART1_RX/TIM1_CH3/TIM17_BKIN/I2C1_SDA/UCPD1_DBCC2, 33 PA11[PA9](4)/SPI1_MISO/I2S1_MCK/USART1_CTS/TIM1_CH4/TIM1_BKIN2/I2C2_SCL/COMP1_OUT, 34 PA12[PA10](4)/SPI1_MOSI/I2S1_SD/USART1_RTS_DE_CK/TIM1_ETR/I2S_CKIN/I2C2_SDA/COMP2_OUT, 35 PA13/SWDIO/IR_OUT, 36 PA14/BOOT0/SWCLK/USART2_TX, 37 PA15/SPI1_NSS/I2S1_WS/USART2_RX/TIM2_CH1_ETR/USART4_RTS_DE_CK/USART3_RTS_DE_CK, 38 PD0/SPI2_NSS/TIM16_CH1/UCPD2_CC1, 39 PD1/SPI2_SCK/TIM17_CH1/UCPD2_DBCC1, 40 PD2/USART3_RTS_DE_CK/TIM3_ETR/TIM1_CH1N/UCPD2_CC2, 41 PD3/USART2_CTS/SPI2_MISO/TIM1_CH2N/UCPD2_DBCC2, 42 PB3/SPI1_SCK/I2S1_CK/TIM1_CH2/TIM2_CH2/USART1_RTS_DE_CK/COMP2_INM, 43 PB4/SPI1_MISO/I2S1_MCK/TIM3_CH1/USART1_CTS/TIM17_BKIN/COMP2_INP, 44 PB5/SPI1_MOSI/I2S1_SD/TIM3_CH2/TIM16_BKIN/LPTIM1_IN1/I2C1_SMBA/COMP2_OUT/WKUP6, 45 PB6/USART1_TX/TIM1_CH3/TIM16_CH1N/SPI2_MISO/LPTIM1_ETR/I2C1_SCL/COMP2_INP, 46 PB7/USART1_RX/SPI2_MOSI/TIM17_CH1N/USART4_CTS/LPTIM1_IN2/I2C1_SDA/COMP2_INM/PVD_IN, 47 PB8/CEC/SPI2_SCK/TIM16_CH1/USART3_TX/TIM15_BKIN/I2C1_SCL, 48 PB9/IR_OUT/UCPD2_FRSTX/TIM17_CH1/USART3_RX/SPI2_NSS/I2C1_SDA, 49 VSS


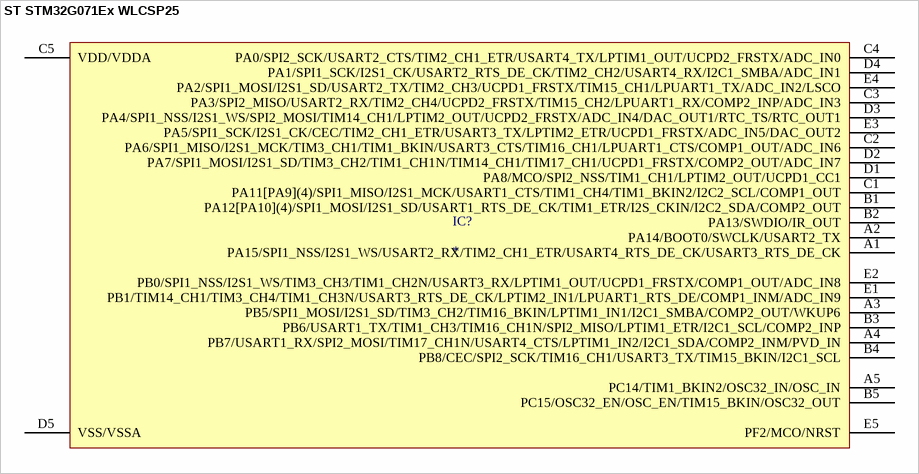
[diagram p445: symbol ST STM32G071Ex WLCSP25]

## ST STM32G071Ex WLCSP25
designator IC?
pins: A1 PA15/SPI1_NSS/I2S1_WS/USART2_RX/TIM2_CH1_ETR/USART4_RTS_DE_CK/USART3_RTS_DE_CK, A2 PA14/BOOT0/SWCLK/USART2_TX, A3 PB5/SPI1_MOSI/I2S1_SD/TIM3_CH2/TIM16_BKIN/LPTIM1_IN1/I2C1_SMBA/COMP2_OUT/WKUP6, A4 PB7/USART1_RX/SPI2_MOSI/TIM17_CH1N/USART4_CTS/LPTIM1_IN2/I2C1_SDA/COMP2_INM/PVD_IN, A5 PC14/TIM1_BKIN2/OSC32_IN/OSC_IN, B1 PA12[PA10](4)/SPI1_MOSI/I2S1_SD/USART1_RTS_DE_CK/TIM1_ETR/I2S_CKIN/I2C2_SDA/COMP2_OUT, B2 PA13/SWDIO/IR_OUT, B3 PB6/USART1_TX/TIM1_CH3/TIM16_CH1N/SPI2_MISO/LPTIM1_ETR/I2C1_SCL/COMP2_INP, B4 PB8/CEC/SPI2_SCK/TIM16_CH1/USART3_TX/TIM15_BKIN/I2C1_SCL, B5 PC15/OSC32_EN/OSC_EN/TIM15_BKIN/OSC32_OUT, C1 PA11[PA9](4)/SPI1_MISO/I2S1_MCK/USART1_CTS/TIM1_CH4/TIM1_BKIN2/I2C2_SCL/COMP1_OUT, C2 PA6/SPI1_MISO/I2S1_MCK/TIM3_CH1/TIM1_BKIN/USART3_CTS/TIM16_CH1/LPUART1_CTS/COMP1_OUT/ADC_IN6, C3 PA3/SPI2_MISO/USART2_RX/TIM2_CH4/UCPD2_FRSTX/TIM15_CH2/LPUART1_RX/COMP2_INP/ADC_IN3, C4 PA0/SPI2_SCK/USART2_CTS/TIM2_CH1_ETR/USART4_TX/LPTIM1_OUT/UCPD2_FRSTX/ADC_IN0, C5 VDD/VDDA, D1 PA8/MCO/SPI2_NSS/TIM1_CH1/LPTIM2_OUT/UCPD1_CC1, D2 PA7/SPI1_MOSI/I2S1_SD/TIM3_CH2/TIM1_CH1N/TIM14_CH1/TIM17_CH1/UCPD1_FRSTX/COMP2_OUT/ADC_IN7, D3 PA4/SPI1_NSS/I2S1_WS/SPI2_MOSI/TIM14_CH1/LPTIM2_OUT/UCPD2_FRSTX/ADC_IN4/DAC_OUT1/RTC_TS/RTC_OUT1, D4 PA1/SPI1_SCK/I2S1_CK/USART2_RTS_DE_CK/TIM2_CH2/USART4_RX/I2C1_SMBA/ADC_IN1, D5 VSS/VSSA, E1 PB1/TIM14_CH1/TIM3_CH4/TIM1_CH3N/USART3_RTS_DE_CK/LPTIM2_IN1/LPUART1_RTS_DE/COMP1_INM/ADC_IN9, E2 PB0/SPI1_NSS/I2S1_WS/TIM3_CH3/TIM1_CH2N/USART3_RX/LPTIM1_OUT/UCPD1_FRSTX/COMP1_OUT/ADC_IN8, E3 PA5/SPI1_SCK/I2S1_CK/CEC/TIM2_CH1_ETR/USART3_TX/LPTIM2_ETR/UCPD1_FRSTX/ADC_IN5/DAC_OUT2, E4 PA2/SPI1_MOSI/I2S1_SD/USART2_TX/TIM2_CH3/UCPD1_FRSTX/TIM15_CH1/LPUART1_TX/ADC_IN2/LSCO, E5 PF2/MCO/NRST


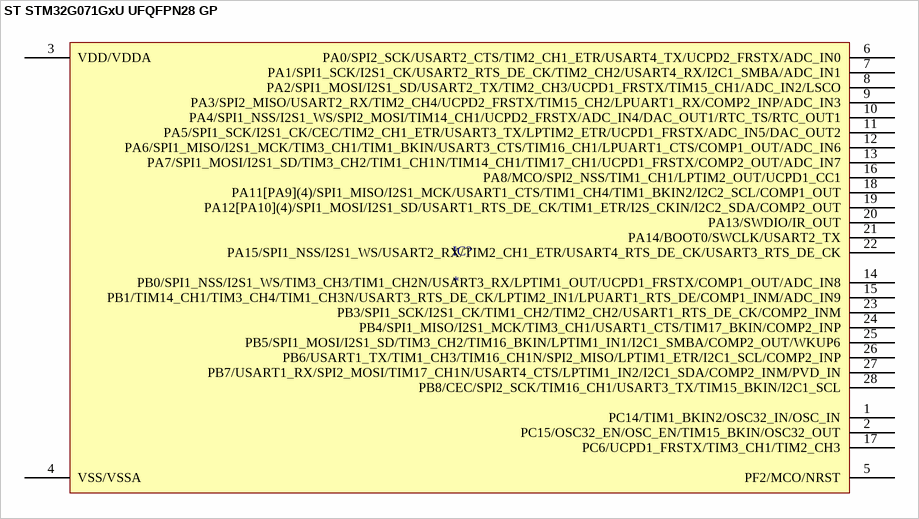
[diagram p446: symbol ST STM32G071GxU UFQFPN28 GP]

## ST STM32G071GxU UFQFPN28 GP
designator IC?
pins: 1 PC14/TIM1_BKIN2/OSC32_IN/OSC_IN, 2 PC15/OSC32_EN/OSC_EN/TIM15_BKIN/OSC32_OUT, 3 VDD/VDDA, 4 VSS/VSSA, 5 PF2/MCO/NRST, 6 PA0/SPI2_SCK/USART2_CTS/TIM2_CH1_ETR/USART4_TX/UCPD2_FRSTX/ADC_IN0, 7 PA1/SPI1_SCK/I2S1_CK/USART2_RTS_DE_CK/TIM2_CH2/USART4_RX/I2C1_SMBA/ADC_IN1, 8 PA2/SPI1_MOSI/I2S1_SD/USART2_TX/TIM2_CH3/UCPD1_FRSTX/TIM15_CH1/ADC_IN2/LSCO, 9 PA3/SPI2_MISO/USART2_RX/TIM2_CH4/UCPD2_FRSTX/TIM15_CH2/LPUART1_RX/COMP2_INP/ADC_IN3, 10 PA4/SPI1_NSS/I2S1_WS/SPI2_MOSI/TIM14_CH1/UCPD2_FRSTX/ADC_IN4/DAC_OUT1/RTC_TS/RTC_OUT1, 11 PA5/SPI1_SCK/I2S1_CK/CEC/TIM2_CH1_ETR/USART3_TX/LPTIM2_ETR/UCPD1_FRSTX/ADC_IN5/DAC_OUT2, 12 PA6/SPI1_MISO/I2S1_MCK/TIM3_CH1/TIM1_BKIN/USART3_CTS/TIM16_CH1/LPUART1_CTS/COMP1_OUT/ADC_IN6, 13 PA7/SPI1_MOSI/I2S1_SD/TIM3_CH2/TIM1_CH1N/TIM14_CH1/TIM17_CH1/UCPD1_FRSTX/COMP2_OUT/ADC_IN7, 14 PB0/SPI1_NSS/I2S1_WS/TIM3_CH3/TIM1_CH2N/USART3_RX/LPTIM1_OUT/UCPD1_FRSTX/COMP1_OUT/ADC_IN8, 15 PB1/TIM14_CH1/TIM3_CH4/TIM1_CH3N/USART3_RTS_DE_CK/LPTIM2_IN1/LPUART1_RTS_DE/COMP1_INM/ADC_IN9, 16 PA8/MCO/SPI2_NSS/TIM1_CH1/LPTIM2_OUT/UCPD1_CC1, 17 PC6/UCPD1_FRSTX/TIM3_CH1/TIM2_CH3, 18 PA11[PA9](4)/SPI1_MISO/I2S1_MCK/USART1_CTS/TIM1_CH4/TIM1_BKIN2/I2C2_SCL/COMP1_OUT, 19 PA12[PA10](4)/SPI1_MOSI/I2S1_SD/USART1_RTS_DE_CK/TIM1_ETR/I2S_CKIN/I2C2_SDA/COMP2_OUT, 20 PA13/SWDIO/IR_OUT, 21 PA14/BOOT0/SWCLK/USART2_TX, 22 PA15/SPI1_NSS/I2S1_WS/USART2_RX/TIM2_CH1_ETR/USART4_RTS_DE_CK/USART3_RTS_DE_CK, 23 PB3/SPI1_SCK/I2S1_CK/TIM1_CH2/TIM2_CH2/USART1_RTS_DE_CK/COMP2_INM, 24 PB4/SPI1_MISO/I2S1_MCK/TIM3_CH1/USART1_CTS/TIM17_BKIN/COMP2_INP, 25 PB5/SPI1_MOSI/I2S1_SD/TIM3_CH2/TIM16_BKIN/LPTIM1_IN1/I2C1_SMBA/COMP2_OUT/WKUP6, 26 PB6/USART1_TX/TIM1_CH3/TIM16_CH1N/SPI2_MISO/LPTIM1_ETR/I2C1_SCL/COMP2_INP, 27 PB7/USART1_RX/SPI2_MOSI/TIM17_CH1N/USART4_CTS/LPTIM1_IN2/I2C1_SDA/COMP2_INM/PVD_IN, 28 PB8/CEC/SPI2_SCK/TIM16_CH1/USART3_TX/TIM15_BKIN/I2C1_SCL


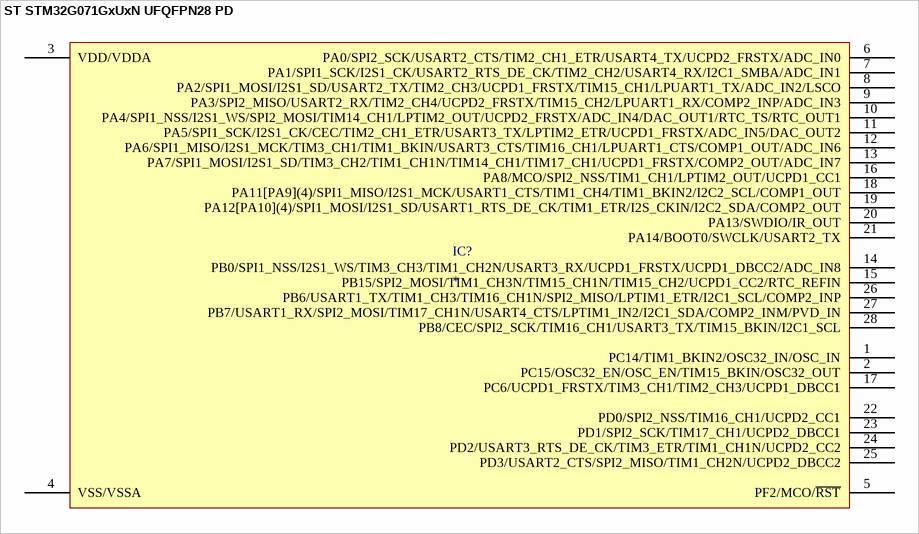
[diagram p447: symbol ST STM32G071GxUxN UFQFPN28 PD]

## ST STM32G071GxUxN UFQFPN28 PD
designator IC?
pins: 1 PC14/TIM1_BKIN2/OSC32_IN/OSC_IN, 2 PC15/OSC32_EN/OSC_EN/TIM15_BKIN/OSC32_OUT, 3 VDD/VDDA, 4 VSS/VSSA, 5 PF2/MCO/~{RST}, 6 PA0/SPI2_SCK/USART2_CTS/TIM2_CH1_ETR/USART4_TX/UCPD2_FRSTX/ADC_IN0, 7 PA1/SPI1_SCK/I2S1_CK/USART2_RTS_DE_CK/TIM2_CH2/USART4_RX/I2C1_SMBA/ADC_IN1, 8 PA2/SPI1_MOSI/I2S1_SD/USART2_TX/TIM2_CH3/UCPD1_FRSTX/TIM15_CH1/LPUART1_TX/ADC_IN2/LSCO, 9 PA3/SPI2_MISO/USART2_RX/TIM2_CH4/UCPD2_FRSTX/TIM15_CH2/LPUART1_RX/COMP2_INP/ADC_IN3, 10 PA4/SPI1_NSS/I2S1_WS/SPI2_MOSI/TIM14_CH1/LPTIM2_OUT/UCPD2_FRSTX/ADC_IN4/DAC_OUT1/RTC_TS/RTC_OUT1, 11 PA5/SPI1_SCK/I2S1_CK/CEC/TIM2_CH1_ETR/USART3_TX/LPTIM2_ETR/UCPD1_FRSTX/ADC_IN5/DAC_OUT2, 12 PA6/SPI1_MISO/I2S1_MCK/TIM3_CH1/TIM1_BKIN/USART3_CTS/TIM16_CH1/LPUART1_CTS/COMP1_OUT/ADC_IN6, 13 PA7/SPI1_MOSI/I2S1_SD/TIM3_CH2/TIM1_CH1N/TIM14_CH1/TIM17_CH1/UCPD1_FRSTX/COMP2_OUT/ADC_IN7, 14 PB0/SPI1_NSS/I2S1_WS/TIM3_CH3/TIM1_CH2N/USART3_RX/UCPD1_FRSTX/UCPD1_DBCC2/ADC_IN8, 15 PB15/SPI2_MOSI/TIM1_CH3N/TIM15_CH1N/TIM15_CH2/UCPD1_CC2/RTC_REFIN, 16 PA8/MCO/SPI2_NSS/TIM1_CH1/LPTIM2_OUT/UCPD1_CC1, 17 PC6/UCPD1_FRSTX/TIM3_CH1/TIM2_CH3/UCPD1_DBCC1, 18 PA11[PA9](4)/SPI1_MISO/I2S1_MCK/USART1_CTS/TIM1_CH4/TIM1_BKIN2/I2C2_SCL/COMP1_OUT, 19 PA12[PA10](4)/SPI1_MOSI/I2S1_SD/USART1_RTS_DE_CK/TIM1_ETR/I2S_CKIN/I2C2_SDA/COMP2_OUT, 20 PA13/SWDIO/IR_OUT, 21 PA14/BOOT0/SWCLK/USART2_TX, 22 PD0/SPI2_NSS/TIM16_CH1/UCPD2_CC1, 23 PD1/SPI2_SCK/TIM17_CH1/UCPD2_DBCC1, 24 PD2/USART3_RTS_DE_CK/TIM3_ETR/TIM1_CH1N/UCPD2_CC2, 25 PD3/USART2_CTS/SPI2_MISO/TIM1_CH2N/UCPD2_DBCC2, 26 PB6/USART1_TX/TIM1_CH3/TIM16_CH1N/SPI2_MISO/LPTIM1_ETR/I2C1_SCL/COMP2_INP, 27 PB7/USART1_RX/SPI2_MOSI/TIM17_CH1N/USART4_CTS/LPTIM1_IN2/I2C1_SDA/COMP2_INM/PVD_IN, 28 PB8/CEC/SPI2_SCK/TIM16_CH1/USART3_TX/TIM15_BKIN/I2C1_SCL


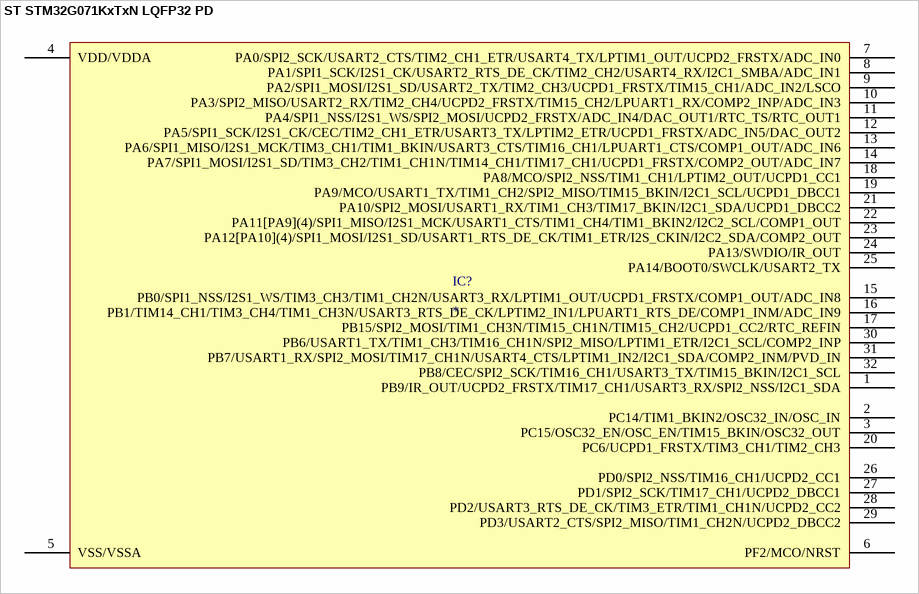
[diagram p448: symbol ST STM32G071KxTxN LQFP32 PD]

## ST STM32G071KxTxN LQFP32 PD
designator IC?
pins: 1 PB9/IR_OUT/UCPD2_FRSTX/TIM17_CH1/USART3_RX/SPI2_NSS/I2C1_SDA, 2 PC14/TIM1_BKIN2/OSC32_IN/OSC_IN, 3 PC15/OSC32_EN/OSC_EN/TIM15_BKIN/OSC32_OUT, 4 VDD/VDDA, 5 VSS/VSSA, 6 PF2/MCO/NRST, 7 PA0/SPI2_SCK/USART2_CTS/TIM2_CH1_ETR/USART4_TX/LPTIM1_OUT/UCPD2_FRSTX/ADC_IN0, 8 PA1/SPI1_SCK/I2S1_CK/USART2_RTS_DE_CK/TIM2_CH2/USART4_RX/I2C1_SMBA/ADC_IN1, 9 PA2/SPI1_MOSI/I2S1_SD/USART2_TX/TIM2_CH3/UCPD1_FRSTX/TIM15_CH1/ADC_IN2/LSCO, 10 PA3/SPI2_MISO/USART2_RX/TIM2_CH4/UCPD2_FRSTX/TIM15_CH2/LPUART1_RX/COMP2_INP/ADC_IN3, 11 PA4/SPI1_NSS/I2S1_WS/SPI2_MOSI/UCPD2_FRSTX/ADC_IN4/DAC_OUT1/RTC_TS/RTC_OUT1, 12 PA5/SPI1_SCK/I2S1_CK/CEC/TIM2_CH1_ETR/USART3_TX/LPTIM2_ETR/UCPD1_FRSTX/ADC_IN5/DAC_OUT2, 13 PA6/SPI1_MISO/I2S1_MCK/TIM3_CH1/TIM1_BKIN/USART3_CTS/TIM16_CH1/LPUART1_CTS/COMP1_OUT/ADC_IN6, 14 PA7/SPI1_MOSI/I2S1_SD/TIM3_CH2/TIM1_CH1N/TIM14_CH1/TIM17_CH1/UCPD1_FRSTX/COMP2_OUT/ADC_IN7, 15 PB0/SPI1_NSS/I2S1_WS/TIM3_CH3/TIM1_CH2N/USART3_RX/LPTIM1_OUT/UCPD1_FRSTX/COMP1_OUT/ADC_IN8, 16 PB1/TIM14_CH1/TIM3_CH4/TIM1_CH3N/USART3_RTS_DE_CK/LPTIM2_IN1/LPUART1_RTS_DE/COMP1_INM/ADC_IN9, 17 PB15/SPI2_MOSI/TIM1_CH3N/TIM15_CH1N/TIM15_CH2/UCPD1_CC2/RTC_REFIN, 18 PA8/MCO/SPI2_NSS/TIM1_CH1/LPTIM2_OUT/UCPD1_CC1, 19 PA9/MCO/USART1_TX/TIM1_CH2/SPI2_MISO/TIM15_BKIN/I2C1_SCL/UCPD1_DBCC1, 20 PC6/UCPD1_FRSTX/TIM3_CH1/TIM2_CH3, 21 PA10/SPI2_MOSI/USART1_RX/TIM1_CH3/TIM17_BKIN/I2C1_SDA/UCPD1_DBCC2, 22 PA11[PA9](4)/SPI1_MISO/I2S1_MCK/USART1_CTS/TIM1_CH4/TIM1_BKIN2/I2C2_SCL/COMP1_OUT, 23 PA12[PA10](4)/SPI1_MOSI/I2S1_SD/USART1_RTS_DE_CK/TIM1_ETR/I2S_CKIN/I2C2_SDA/COMP2_OUT, 24 PA13/SWDIO/IR_OUT, 25 PA14/BOOT0/SWCLK/USART2_TX, 26 PD0/SPI2_NSS/TIM16_CH1/UCPD2_CC1, 27 PD1/SPI2_SCK/TIM17_CH1/UCPD2_DBCC1, 28 PD2/USART3_RTS_DE_CK/TIM3_ETR/TIM1_CH1N/UCPD2_CC2, 29 PD3/USART2_CTS/SPI2_MISO/TIM1_CH2N/UCPD2_DBCC2, 30 PB6/USART1_TX/TIM1_CH3/TIM16_CH1N/SPI2_MISO/LPTIM1_ETR/I2C1_SCL/COMP2_INP, 31 PB7/USART1_RX/SPI2_MOSI/TIM17_CH1N/USART4_CTS/LPTIM1_IN2/I2C1_SDA/COMP2_INM/PVD_IN, 32 PB8/CEC/SPI2_SCK/TIM16_CH1/USART3_TX/TIM15_BKIN/I2C1_SCL


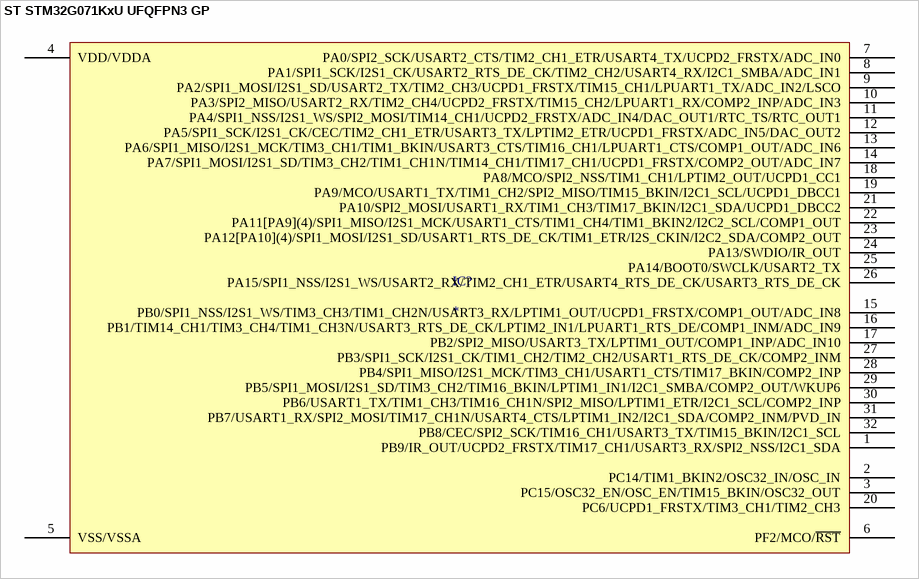
[diagram p449: symbol ST STM32G071KxU UFQFPN3 GP]

## ST STM32G071KxU UFQFPN3 GP
designator IC?
pins: 1 PB9/IR_OUT/UCPD2_FRSTX/TIM17_CH1/USART3_RX/SPI2_NSS/I2C1_SDA, 2 PC14/TIM1_BKIN2/OSC32_IN/OSC_IN, 3 PC15/OSC32_EN/OSC_EN/TIM15_BKIN/OSC32_OUT, 4 VDD/VDDA, 5 VSS/VSSA, 6 PF2/MCO/~{RST}, 7 PA0/SPI2_SCK/USART2_CTS/TIM2_CH1_ETR/USART4_TX/UCPD2_FRSTX/ADC_IN0, 8 PA1/SPI1_SCK/I2S1_CK/USART2_RTS_DE_CK/TIM2_CH2/USART4_RX/I2C1_SMBA/ADC_IN1, 9 PA2/SPI1_MOSI/I2S1_SD/USART2_TX/TIM2_CH3/UCPD1_FRSTX/TIM15_CH1/LPUART1_TX/ADC_IN2/LSCO, 10 PA3/SPI2_MISO/USART2_RX/TIM2_CH4/UCPD2_FRSTX/TIM15_CH2/LPUART1_RX/COMP2_INP/ADC_IN3, 11 PA4/SPI1_NSS/I2S1_WS/SPI2_MOSI/TIM14_CH1/UCPD2_FRSTX/ADC_IN4/DAC_OUT1/RTC_TS/RTC_OUT1, 12 PA5/SPI1_SCK/I2S1_CK/CEC/TIM2_CH1_ETR/USART3_TX/LPTIM2_ETR/UCPD1_FRSTX/ADC_IN5/DAC_OUT2, 13 PA6/SPI1_MISO/I2S1_MCK/TIM3_CH1/TIM1_BKIN/USART3_CTS/TIM16_CH1/LPUART1_CTS/COMP1_OUT/ADC_IN6, 14 PA7/SPI1_MOSI/I2S1_SD/TIM3_CH2/TIM1_CH1N/TIM14_CH1/TIM17_CH1/UCPD1_FRSTX/COMP2_OUT/ADC_IN7, 15 PB0/SPI1_NSS/I2S1_WS/TIM3_CH3/TIM1_CH2N/USART3_RX/LPTIM1_OUT/UCPD1_FRSTX/COMP1_OUT/ADC_IN8, 16 PB1/TIM14_CH1/TIM3_CH4/TIM1_CH3N/USART3_RTS_DE_CK/LPTIM2_IN1/LPUART1_RTS_DE/COMP1_INM/ADC_IN9, 17 PB2/SPI2_MISO/USART3_TX/LPTIM1_OUT/COMP1_INP/ADC_IN10, 18 PA8/MCO/SPI2_NSS/TIM1_CH1/LPTIM2_OUT/UCPD1_CC1, 19 PA9/MCO/USART1_TX/TIM1_CH2/SPI2_MISO/TIM15_BKIN/I2C1_SCL/UCPD1_DBCC1, 20 PC6/UCPD1_FRSTX/TIM3_CH1/TIM2_CH3, 21 PA10/SPI2_MOSI/USART1_RX/TIM1_CH3/TIM17_BKIN/I2C1_SDA/UCPD1_DBCC2, 22 PA11[PA9](4)/SPI1_MISO/I2S1_MCK/USART1_CTS/TIM1_CH4/TIM1_BKIN2/I2C2_SCL/COMP1_OUT, 23 PA12[PA10](4)/SPI1_MOSI/I2S1_SD/USART1_RTS_DE_CK/TIM1_ETR/I2S_CKIN/I2C2_SDA/COMP2_OUT, 24 PA13/SWDIO/IR_OUT, 25 PA14/BOOT0/SWCLK/USART2_TX, 26 PA15/SPI1_NSS/I2S1_WS/USART2_RX/TIM2_CH1_ETR/USART4_RTS_DE_CK/USART3_RTS_DE_CK, 27 PB3/SPI1_SCK/I2S1_CK/TIM1_CH2/TIM2_CH2/USART1_RTS_DE_CK/COMP2_INM, 28 PB4/SPI1_MISO/I2S1_MCK/TIM3_CH1/USART1_CTS/TIM17_BKIN/COMP2_INP, 29 PB5/SPI1_MOSI/I2S1_SD/TIM3_CH2/TIM16_BKIN/LPTIM1_IN1/I2C1_SMBA/COMP2_OUT/WKUP6, 30 PB6/USART1_TX/TIM1_CH3/TIM16_CH1N/SPI2_MISO/LPTIM1_ETR/I2C1_SCL/COMP2_INP, 31 PB7/USART1_RX/SPI2_MOSI/TIM17_CH1N/USART4_CTS/LPTIM1_IN2/I2C1_SDA/COMP2_INM/PVD_IN, 32 PB8/CEC/SPI2_SCK/TIM16_CH1/USART3_TX/TIM15_BKIN/I2C1_SCL


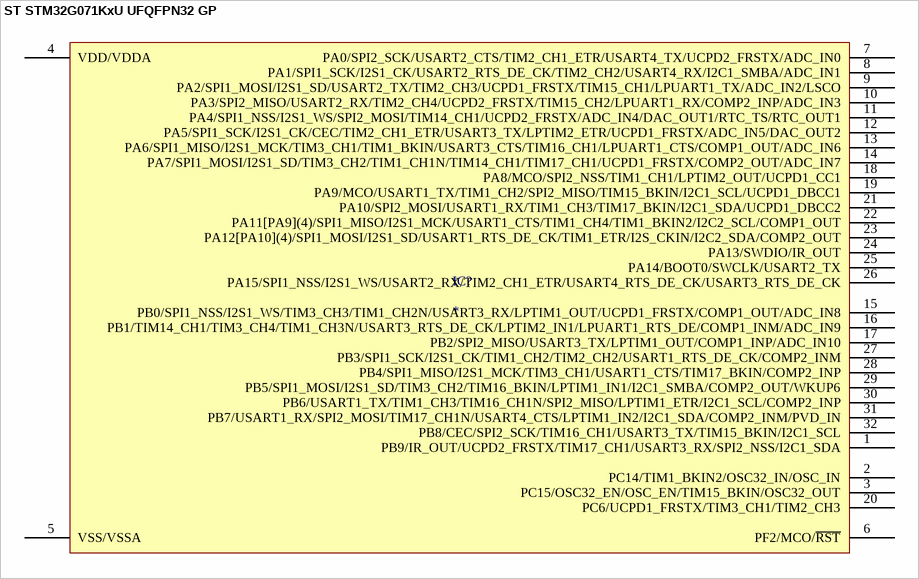
[diagram p450: symbol ST STM32G071KxU UFQFPN32 GP]

## ST STM32G071KxU UFQFPN32 GP
designator IC?
pins: 1 PB9/IR_OUT/UCPD2_FRSTX/TIM17_CH1/USART3_RX/SPI2_NSS/I2C1_SDA, 2 PC14/TIM1_BKIN2/OSC32_IN/OSC_IN, 3 PC15/OSC32_EN/OSC_EN/TIM15_BKIN/OSC32_OUT, 4 VDD/VDDA, 5 VSS/VSSA, 6 PF2/MCO/~{RST}, 7 PA0/SPI2_SCK/USART2_CTS/TIM2_CH1_ETR/USART4_TX/UCPD2_FRSTX/ADC_IN0, 8 PA1/SPI1_SCK/I2S1_CK/USART2_RTS_DE_CK/TIM2_CH2/USART4_RX/I2C1_SMBA/ADC_IN1, 9 PA2/SPI1_MOSI/I2S1_SD/USART2_TX/TIM2_CH3/UCPD1_FRSTX/TIM15_CH1/LPUART1_TX/ADC_IN2/LSCO, 10 PA3/SPI2_MISO/USART2_RX/TIM2_CH4/UCPD2_FRSTX/TIM15_CH2/LPUART1_RX/COMP2_INP/ADC_IN3, 11 PA4/SPI1_NSS/I2S1_WS/SPI2_MOSI/TIM14_CH1/UCPD2_FRSTX/ADC_IN4/DAC_OUT1/RTC_TS/RTC_OUT1, 12 PA5/SPI1_SCK/I2S1_CK/CEC/TIM2_CH1_ETR/USART3_TX/LPTIM2_ETR/UCPD1_FRSTX/ADC_IN5/DAC_OUT2, 13 PA6/SPI1_MISO/I2S1_MCK/TIM3_CH1/TIM1_BKIN/USART3_CTS/TIM16_CH1/LPUART1_CTS/COMP1_OUT/ADC_IN6, 14 PA7/SPI1_MOSI/I2S1_SD/TIM3_CH2/TIM1_CH1N/TIM14_CH1/TIM17_CH1/UCPD1_FRSTX/COMP2_OUT/ADC_IN7, 15 PB0/SPI1_NSS/I2S1_WS/TIM3_CH3/TIM1_CH2N/USART3_RX/LPTIM1_OUT/UCPD1_FRSTX/COMP1_OUT/ADC_IN8, 16 PB1/TIM14_CH1/TIM3_CH4/TIM1_CH3N/USART3_RTS_DE_CK/LPTIM2_IN1/LPUART1_RTS_DE/COMP1_INM/ADC_IN9, 17 PB2/SPI2_MISO/USART3_TX/LPTIM1_OUT/COMP1_INP/ADC_IN10, 18 PA8/MCO/SPI2_NSS/TIM1_CH1/LPTIM2_OUT/UCPD1_CC1, 19 PA9/MCO/USART1_TX/TIM1_CH2/SPI2_MISO/TIM15_BKIN/I2C1_SCL/UCPD1_DBCC1, 20 PC6/UCPD1_FRSTX/TIM3_CH1/TIM2_CH3, 21 PA10/SPI2_MOSI/USART1_RX/TIM1_CH3/TIM17_BKIN/I2C1_SDA/UCPD1_DBCC2, 22 PA11[PA9](4)/SPI1_MISO/I2S1_MCK/USART1_CTS/TIM1_CH4/TIM1_BKIN2/I2C2_SCL/COMP1_OUT, 23 PA12[PA10](4)/SPI1_MOSI/I2S1_SD/USART1_RTS_DE_CK/TIM1_ETR/I2S_CKIN/I2C2_SDA/COMP2_OUT, 24 PA13/SWDIO/IR_OUT, 25 PA14/BOOT0/SWCLK/USART2_TX, 26 PA15/SPI1_NSS/I2S1_WS/USART2_RX/TIM2_CH1_ETR/USART4_RTS_DE_CK/USART3_RTS_DE_CK, 27 PB3/SPI1_SCK/I2S1_CK/TIM1_CH2/TIM2_CH2/USART1_RTS_DE_CK/COMP2_INM, 28 PB4/SPI1_MISO/I2S1_MCK/TIM3_CH1/USART1_CTS/TIM17_BKIN/COMP2_INP, 29 PB5/SPI1_MOSI/I2S1_SD/TIM3_CH2/TIM16_BKIN/LPTIM1_IN1/I2C1_SMBA/COMP2_OUT/WKUP6, 30 PB6/USART1_TX/TIM1_CH3/TIM16_CH1N/SPI2_MISO/LPTIM1_ETR/I2C1_SCL/COMP2_INP, 31 PB7/USART1_RX/SPI2_MOSI/TIM17_CH1N/USART4_CTS/LPTIM1_IN2/I2C1_SDA/COMP2_INM/PVD_IN, 32 PB8/CEC/SPI2_SCK/TIM16_CH1/USART3_TX/TIM15_BKIN/I2C1_SCL


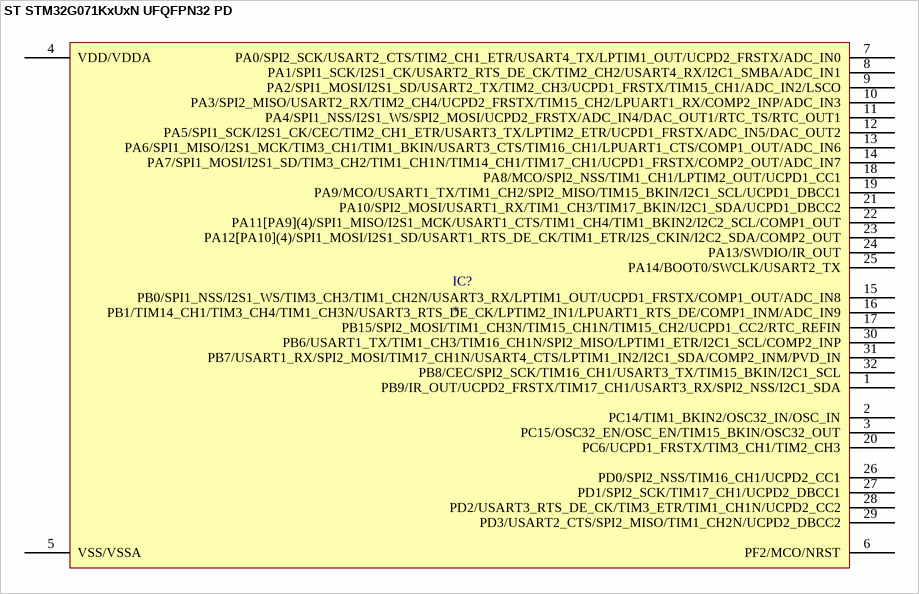
[diagram p451: symbol ST STM32G071KxUxN UFQFPN32 PD]

## ST STM32G071KxUxN UFQFPN32 PD
designator IC?
pins: 1 PB9/IR_OUT/UCPD2_FRSTX/TIM17_CH1/USART3_RX/SPI2_NSS/I2C1_SDA, 2 PC14/TIM1_BKIN2/OSC32_IN/OSC_IN, 3 PC15/OSC32_EN/OSC_EN/TIM15_BKIN/OSC32_OUT, 4 VDD/VDDA, 5 VSS/VSSA, 6 PF2/MCO/NRST, 7 PA0/SPI2_SCK/USART2_CTS/TIM2_CH1_ETR/USART4_TX/LPTIM1_OUT/UCPD2_FRSTX/ADC_IN0, 8 PA1/SPI1_SCK/I2S1_CK/USART2_RTS_DE_CK/TIM2_CH2/USART4_RX/I2C1_SMBA/ADC_IN1, 9 PA2/SPI1_MOSI/I2S1_SD/USART2_TX/TIM2_CH3/UCPD1_FRSTX/TIM15_CH1/ADC_IN2/LSCO, 10 PA3/SPI2_MISO/USART2_RX/TIM2_CH4/UCPD2_FRSTX/TIM15_CH2/LPUART1_RX/COMP2_INP/ADC_IN3, 11 PA4/SPI1_NSS/I2S1_WS/SPI2_MOSI/UCPD2_FRSTX/ADC_IN4/DAC_OUT1/RTC_TS/RTC_OUT1, 12 PA5/SPI1_SCK/I2S1_CK/CEC/TIM2_CH1_ETR/USART3_TX/LPTIM2_ETR/UCPD1_FRSTX/ADC_IN5/DAC_OUT2, 13 PA6/SPI1_MISO/I2S1_MCK/TIM3_CH1/TIM1_BKIN/USART3_CTS/TIM16_CH1/LPUART1_CTS/COMP1_OUT/ADC_IN6, 14 PA7/SPI1_MOSI/I2S1_SD/TIM3_CH2/TIM1_CH1N/TIM14_CH1/TIM17_CH1/UCPD1_FRSTX/COMP2_OUT/ADC_IN7, 15 PB0/SPI1_NSS/I2S1_WS/TIM3_CH3/TIM1_CH2N/USART3_RX/LPTIM1_OUT/UCPD1_FRSTX/COMP1_OUT/ADC_IN8, 16 PB1/TIM14_CH1/TIM3_CH4/TIM1_CH3N/USART3_RTS_DE_CK/LPTIM2_IN1/LPUART1_RTS_DE/COMP1_INM/ADC_IN9, 17 PB15/SPI2_MOSI/TIM1_CH3N/TIM15_CH1N/TIM15_CH2/UCPD1_CC2/RTC_REFIN, 18 PA8/MCO/SPI2_NSS/TIM1_CH1/LPTIM2_OUT/UCPD1_CC1, 19 PA9/MCO/USART1_TX/TIM1_CH2/SPI2_MISO/TIM15_BKIN/I2C1_SCL/UCPD1_DBCC1, 20 PC6/UCPD1_FRSTX/TIM3_CH1/TIM2_CH3, 21 PA10/SPI2_MOSI/USART1_RX/TIM1_CH3/TIM17_BKIN/I2C1_SDA/UCPD1_DBCC2, 22 PA11[PA9](4)/SPI1_MISO/I2S1_MCK/USART1_CTS/TIM1_CH4/TIM1_BKIN2/I2C2_SCL/COMP1_OUT, 23 PA12[PA10](4)/SPI1_MOSI/I2S1_SD/USART1_RTS_DE_CK/TIM1_ETR/I2S_CKIN/I2C2_SDA/COMP2_OUT, 24 PA13/SWDIO/IR_OUT, 25 PA14/BOOT0/SWCLK/USART2_TX, 26 PD0/SPI2_NSS/TIM16_CH1/UCPD2_CC1, 27 PD1/SPI2_SCK/TIM17_CH1/UCPD2_DBCC1, 28 PD2/USART3_RTS_DE_CK/TIM3_ETR/TIM1_CH1N/UCPD2_CC2, 29 PD3/USART2_CTS/SPI2_MISO/TIM1_CH2N/UCPD2_DBCC2, 30 PB6/USART1_TX/TIM1_CH3/TIM16_CH1N/SPI2_MISO/LPTIM1_ETR/I2C1_SCL/COMP2_INP, 31 PB7/USART1_RX/SPI2_MOSI/TIM17_CH1N/USART4_CTS/LPTIM1_IN2/I2C1_SDA/COMP2_INM/PVD_IN, 32 PB8/CEC/SPI2_SCK/TIM16_CH1/USART3_TX/TIM15_BKIN/I2C1_SCL


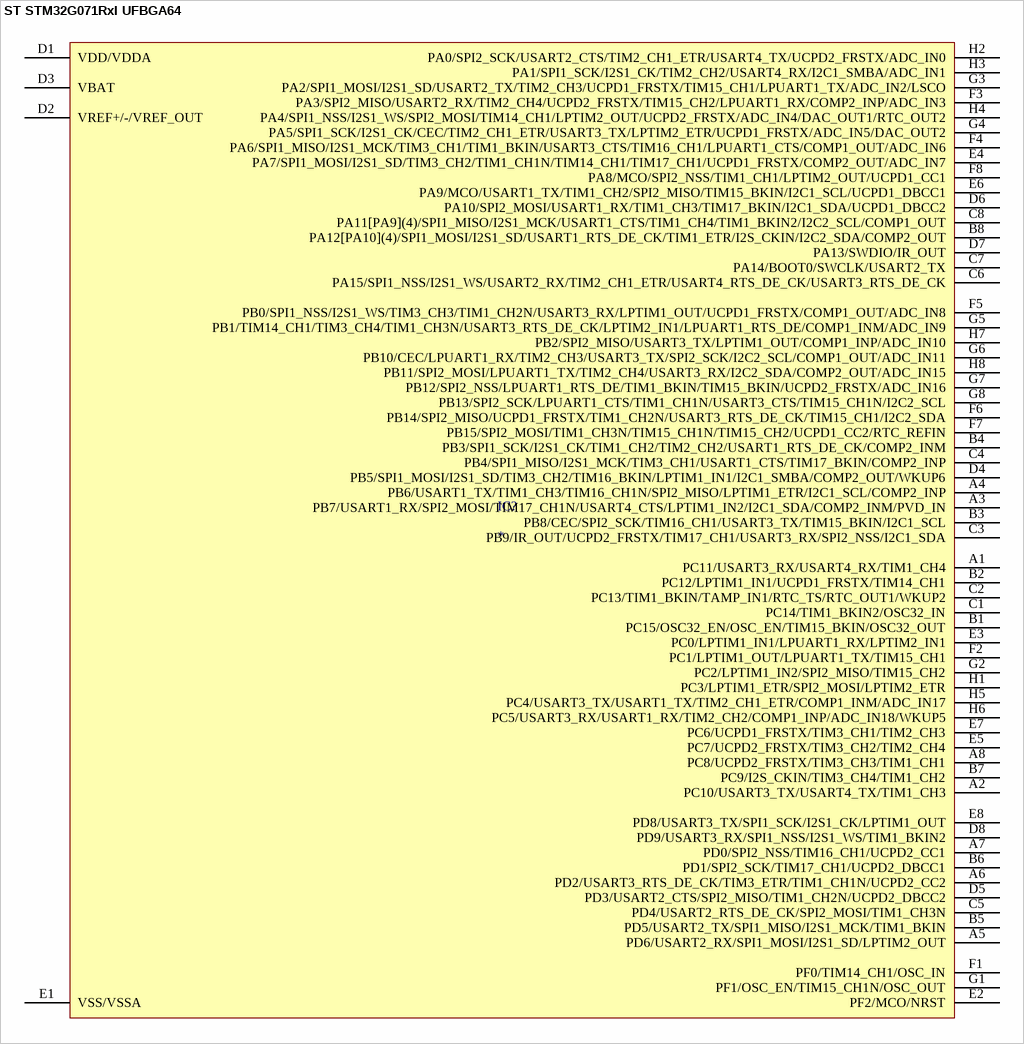
[diagram p452: symbol ST STM32G071RxI UFBGA64]

## ST STM32G071RxI UFBGA64
designator IC?
pins: A1 PC11/USART3_RX/USART4_RX/TIM1_CH4, A2 PC10/USART3_TX/USART4_TX/TIM1_CH3, A3 PB7/USART1_RX/SPI2_MOSI/TIM17_CH1N/USART4_CTS/LPTIM1_IN2/I2C1_SDA/COMP2_INM/PVD_IN, A4 PB6/USART1_TX/TIM1_CH3/TIM16_CH1N/SPI2_MISO/LPTIM1_ETR/I2C1_SCL/COMP2_INP, A5 PD6/USART2_RX/SPI1_MOSI/I2S1_SD/LPTIM2_OUT, A6 PD2/USART3_RTS_DE_CK/TIM3_ETR/TIM1_CH1N/UCPD2_CC2, A7 PD0/SPI2_NSS/TIM16_CH1/UCPD2_CC1, A8 PC8/UCPD2_FRSTX/TIM3_CH3/TIM1_CH1, B1 PC15/OSC32_EN/OSC_EN/TIM15_BKIN/OSC32_OUT, B2 PC12/LPTIM1_IN1/UCPD1_FRSTX/TIM14_CH1, B3 PB8/CEC/SPI2_SCK/TIM16_CH1/USART3_TX/TIM15_BKIN/I2C1_SCL, B4 PB3/SPI1_SCK/I2S1_CK/TIM1_CH2/TIM2_CH2/USART1_RTS_DE_CK/COMP2_INM, B5 PD5/USART2_TX/SPI1_MISO/I2S1_MCK/TIM1_BKIN, B6 PD1/SPI2_SCK/TIM17_CH1/UCPD2_DBCC1, B7 PC9/I2S_CKIN/TIM3_CH4/TIM1_CH2, B8 PA12[PA10](4)/SPI1_MOSI/I2S1_SD/USART1_RTS_DE_CK/TIM1_ETR/I2S_CKIN/I2C2_SDA/COMP2_OUT, C1 PC14/TIM1_BKIN2/OSC32_IN, C2 PC13/TIM1_BKIN/TAMP_IN1/RTC_TS/RTC_OUT1/WKUP2, C3 PB9/IR_OUT/UCPD2_FRSTX/TIM17_CH1/USART3_RX/SPI2_NSS/I2C1_SDA, C4 PB4/SPI1_MISO/I2S1_MCK/TIM3_CH1/USART1_CTS/TIM17_BKIN/COMP2_INP, C5 PD4/USART2_RTS_DE_CK/SPI2_MOSI/TIM1_CH3N, C6 PA15/SPI1_NSS/I2S1_WS/USART2_RX/TIM2_CH1_ETR/USART4_RTS_DE_CK/USART3_RTS_DE_CK, C7 PA14/BOOT0/SWCLK/USART2_TX, C8 PA11[PA9](4)/SPI1_MISO/I2S1_MCK/USART1_CTS/TIM1_CH4/TIM1_BKIN2/I2C2_SCL/COMP1_OUT, D1 VDD/VDDA, D2 VREF+/-/VREF_OUT, D3 VBAT, D4 PB5/SPI1_MOSI/I2S1_SD/TIM3_CH2/TIM16_BKIN/LPTIM1_IN1/I2C1_SMBA/COMP2_OUT/WKUP6, D5 PD3/USART2_CTS/SPI2_MISO/TIM1_CH2N/UCPD2_DBCC2, D6 PA10/SPI2_MOSI/USART1_RX/TIM1_CH3/TIM17_BKIN/I2C1_SDA/UCPD1_DBCC2, D7 PA13/SWDIO/IR_OUT, D8 PD9/USART3_RX/SPI1_NSS/I2S1_WS/TIM1_BKIN2, E1 VSS/VSSA, E2 PF2/MCO/NRST, E3 PC0/LPTIM1_IN1/LPUART1_RX/LPTIM2_IN1, E4 PA7/SPI1_MOSI/I2S1_SD/TIM3_CH2/TIM1_CH1N/TIM14_CH1/TIM17_CH1/UCPD1_FRSTX/COMP2_OUT/ADC_IN7, E5 PC7/UCPD2_FRSTX/TIM3_CH2/TIM2_CH4, E6 PA9/MCO/USART1_TX/TIM1_CH2/SPI2_MISO/TIM15_BKIN/I2C1_SCL/UCPD1_DBCC1, E7 PC6/UCPD1_FRSTX/TIM3_CH1/TIM2_CH3, E8 PD8/USART3_TX/SPI1_SCK/I2S1_CK/LPTIM1_OUT, F1 PF0/TIM14_CH1/OSC_IN, F2 PC1/LPTIM1_OUT/LPUART1_TX/TIM15_CH1, F3 PA3/SPI2_MISO/USART2_RX/TIM2_CH4/UCPD2_FRSTX/TIM15_CH2/LPUART1_RX/COMP2_INP/ADC_IN3, F4 PA6/SPI1_MISO/I2S1_MCK/TIM3_CH1/TIM1_BKIN/USART3_CTS/TIM16_CH1/LPUART1_CTS/COMP1_OUT/ADC_IN6, F5 PB0/SPI1_NSS/I2S1_WS/TIM3_CH3/TIM1_CH2N/USART3_RX/LPTIM1_OUT/UCPD1_FRSTX/COMP1_OUT/ADC_IN8, F6 PB14/SPI2_MISO/UCPD1_FRSTX/TIM1_CH2N/USART3_RTS_DE_CK/TIM15_CH1/I2C2_SDA, F7 PB15/SPI2_MOSI/TIM1_CH3N/TIM15_CH1N/TIM15_CH2/UCPD1_CC2/RTC_REFIN, F8 PA8/MCO/SPI2_NSS/TIM1_CH1/LPTIM2_OUT/UCPD1_CC1, G1 PF1/OSC_EN/TIM15_CH1N/OSC_OUT, G2 PC2/LPTIM1_IN2/SPI2_MISO/TIM15_CH2, G3 PA2/SPI1_MOSI/I2S1_SD/USART2_TX/TIM2_CH3/UCPD1_FRSTX/TIM15_CH1/LPUART1_TX/ADC_IN2/LSCO, G4 PA5/SPI1_SCK/I2S1_CK/CEC/TIM2_CH1_ETR/USART3_TX/LPTIM2_ETR/UCPD1_FRSTX/ADC_IN5/DAC_OUT2, G5 PB1/TIM14_CH1/TIM3_CH4/TIM1_CH3N/USART3_RTS_DE_CK/LPTIM2_IN1/LPUART1_RTS_DE/COMP1_INM/ADC_IN9, G6 PB10/CEC/LPUART1_RX/TIM2_CH3/USART3_TX/SPI2_SCK/I2C2_SCL/COMP1_OUT/ADC_IN11, G7 PB12/SPI2_NSS/LPUART1_RTS_DE/TIM1_BKIN/TIM15_BKIN/UCPD2_FRSTX/ADC_IN16, G8 PB13/SPI2_SCK/LPUART1_CTS/TIM1_CH1N/USART3_CTS/TIM15_CH1N/I2C2_SCL, H1 PC3/LPTIM1_ETR/SPI2_MOSI/LPTIM2_ETR, H2 PA0/SPI2_SCK/USART2_CTS/TIM2_CH1_ETR/USART4_TX/UCPD2_FRSTX/ADC_IN0, H3 PA1/SPI1_SCK/I2S1_CK/TIM2_CH2/USART4_RX/I2C1_SMBA/ADC_IN1, H4 PA4/SPI1_NSS/I2S1_WS/SPI2_MOSI/TIM14_CH1/LPTIM2_OUT/UCPD2_FRSTX/ADC_IN4/DAC_OUT1/RTC_OUT2, H5 PC4/USART3_TX/USART1_TX/TIM2_CH1_ETR/COMP1_INM/ADC_IN17, H6 PC5/USART3_RX/USART1_RX/TIM2_CH2/COMP1_INP/ADC_IN18/WKUP5, H7 PB2/SPI2_MISO/USART3_TX/LPTIM1_OUT/COMP1_INP/ADC_IN10, H8 PB11/SPI2_MOSI/LPUART1_TX/TIM2_CH4/USART3_RX/I2C2_SDA/COMP2_OUT/ADC_IN15


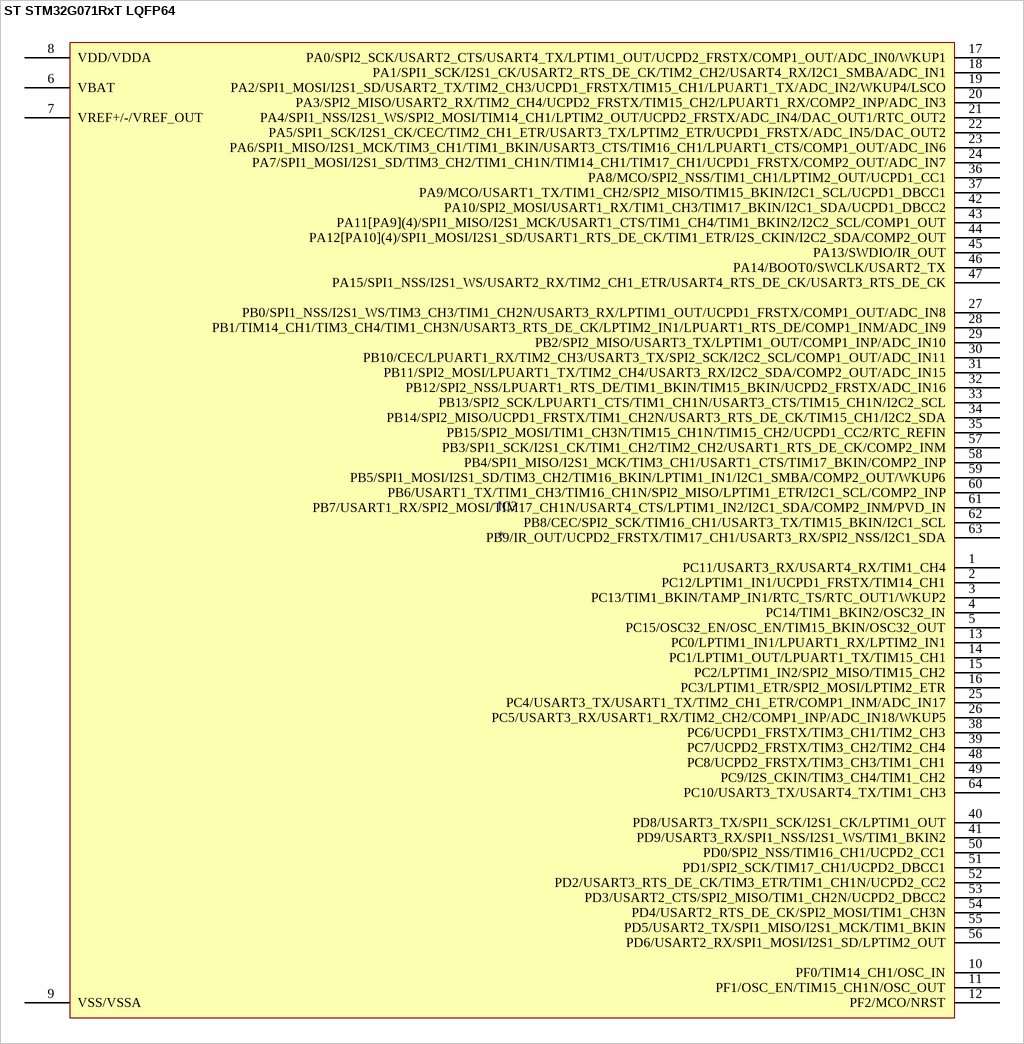
[diagram p453: symbol ST STM32G071RxT LQFP64]